# Altium integrated library Wurth_Elektronik_Electromechanic_Wire_to_Board_Connectors_rev16a.IntLib: 662 symbols (part 9 of 10)
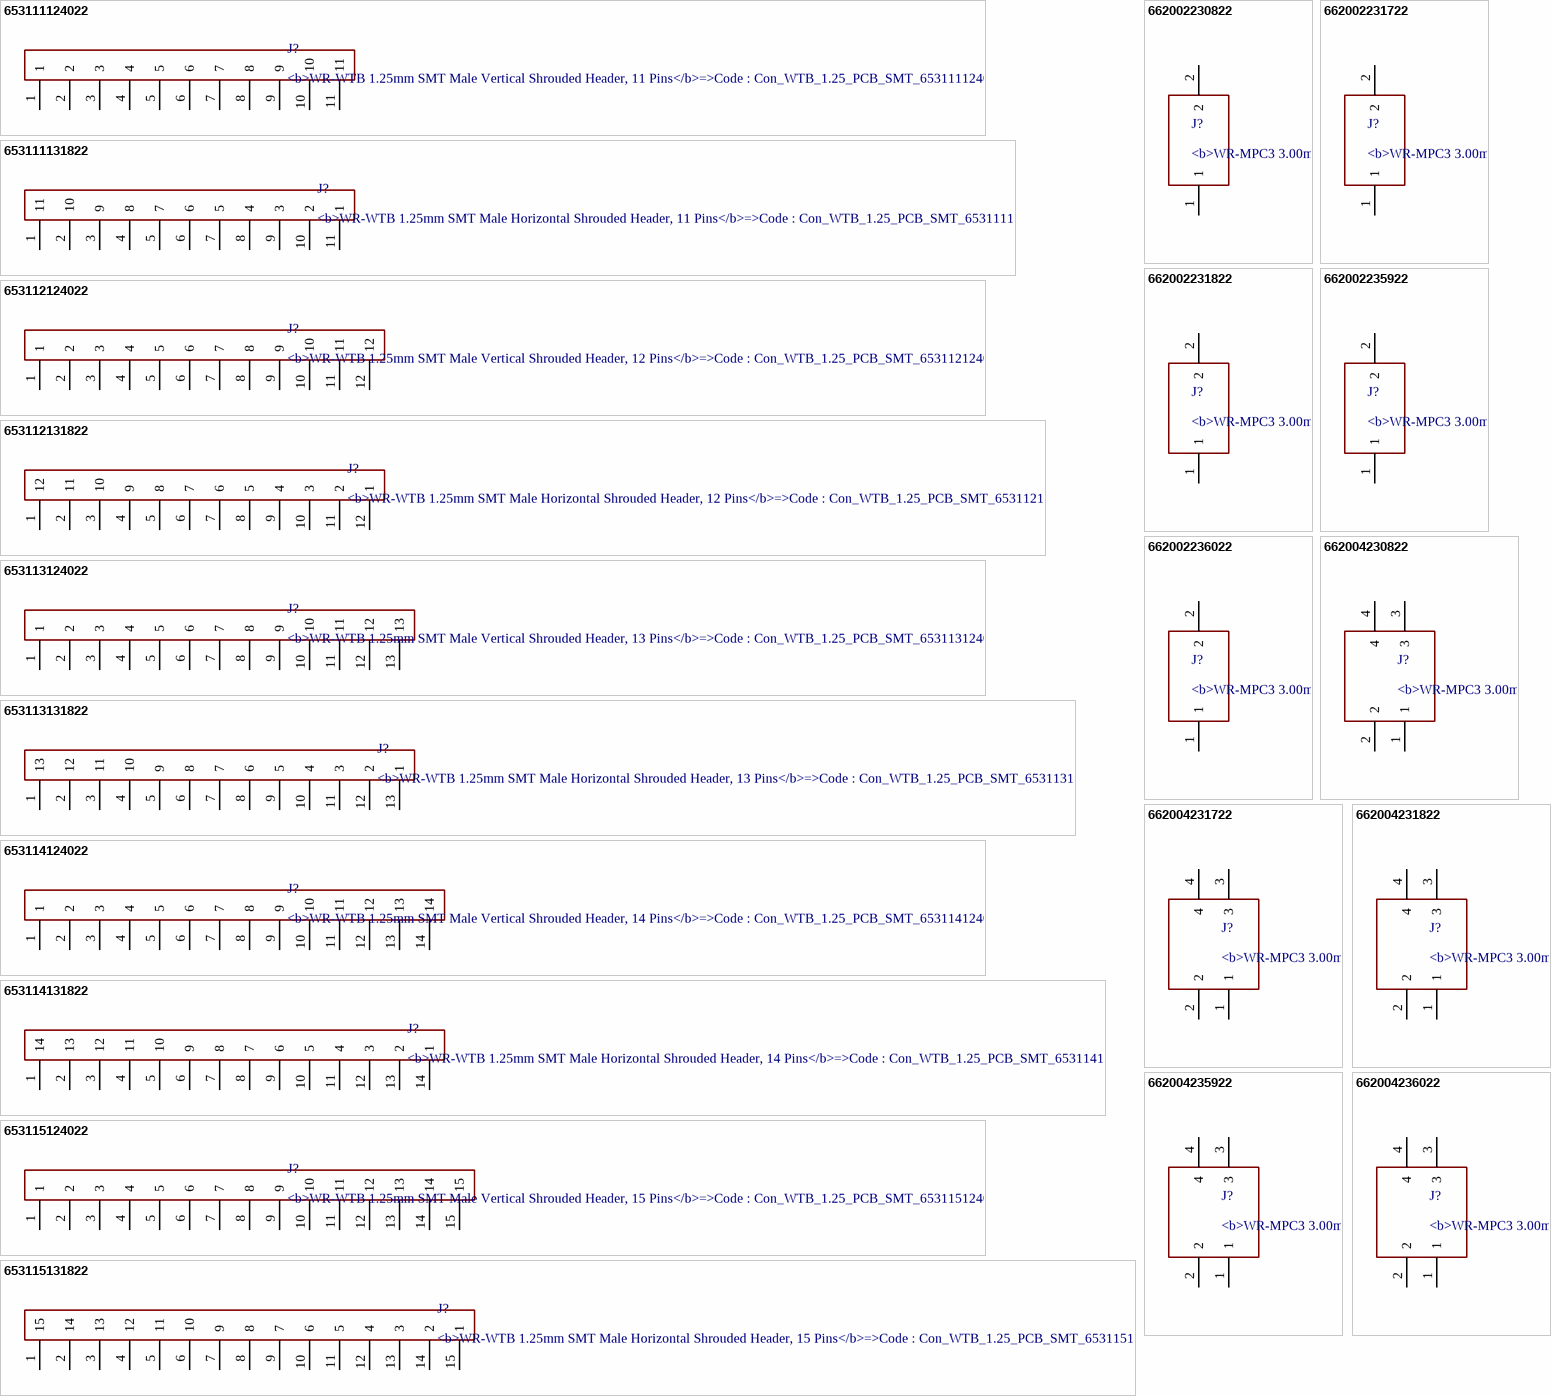
[diagram p70: symbols 653111124022 to 662004236022]

## 662004236022
designator J?, comment <b>WR-MPC3 3.00mm Male Dual Row SMT Angled Header with Plastic Pegs, 4 Pins</b>=>Code : Con_WTB_MPC3_2_PCB_SMT_662004236022 / <br><a href="http://katalog.we-online.de/media/thumbs2/eican/thb_Con_WTB_MPC3_2_PCB_SMT_6620xx236022_pf2.jpg" title="Enlarge picture"> / <img src="http://katalog.we-online.de/media/thumbs2/eican/thb_Con_WTB_MPC3_2_PCB_SMT_6620xx236022_pf2.jpg"  width="320"></a><p> / Details see: <a href="http://katalog.we-online.de/en/em/662_0xx_236_022">http://katalog.we-online.de/en/em/662_0xx_236_022</a><p> / Created 2014-06-06, Karrer Zheng<br> / 2014 (C) Würth Elektronik
footprint 662004236022
pins: 1, 2, 3, 4

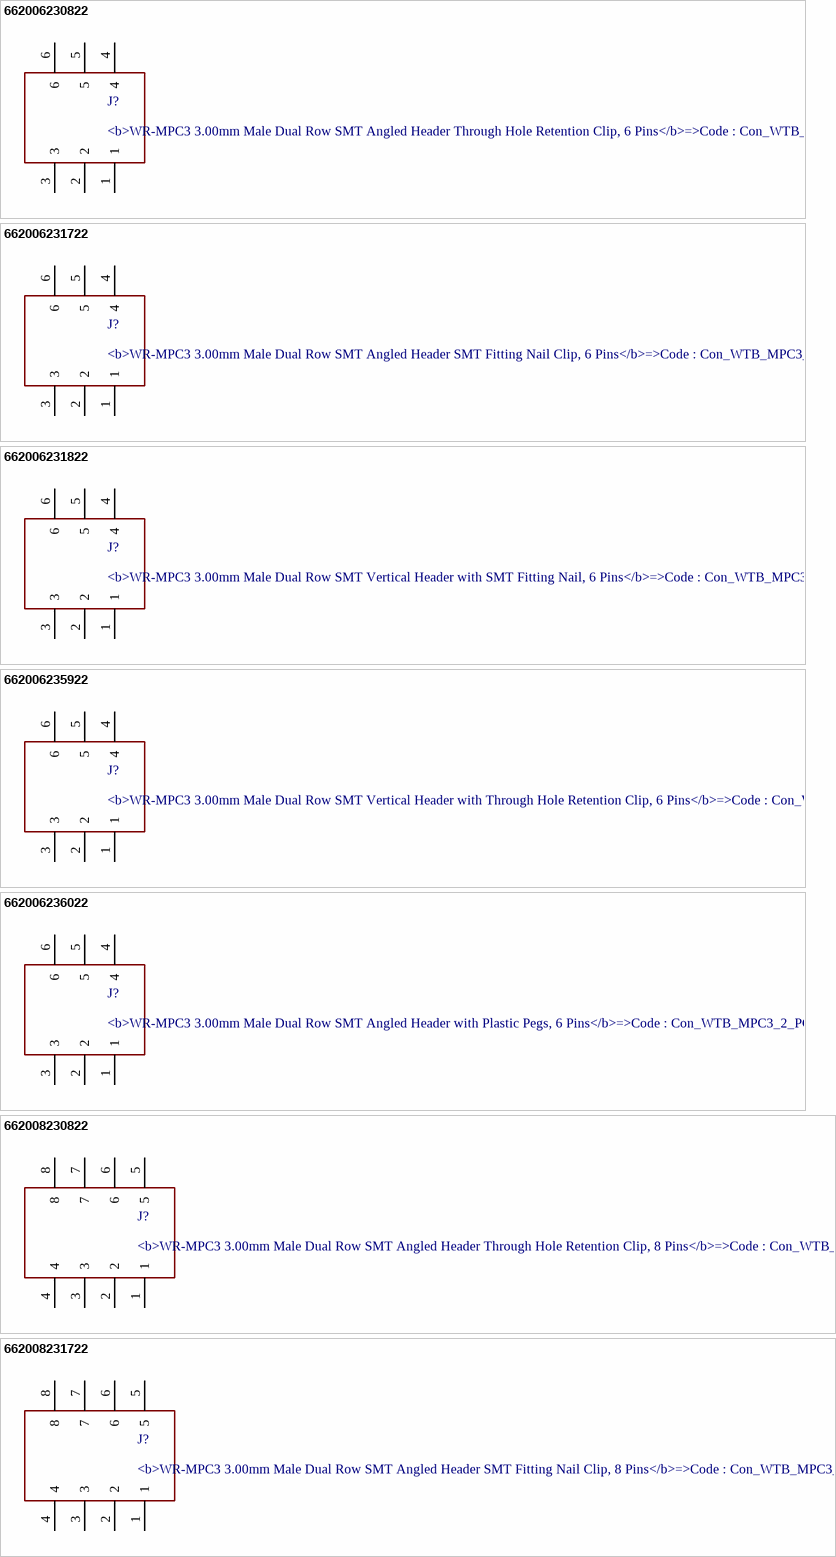
[diagram p51: symbols 662006230822 to 662008231722]

## 662006230822
designator J?, comment <b>WR-MPC3 3.00mm Male Dual Row SMT Angled Header Through Hole Retention Clip, 6 Pins</b>=>Code : Con_WTB_MPC3_2_PCB_SMT_662006230822 / <br><a href="http://katalog.we-online.de/media/thumbs2/eican/thb_Con_WTB_MPC3_2_PCB_SMT_6620xx230822_pf2.jpg" title="Enlarge picture"> / <img src="http://katalog.we-online.de/media/thumbs2/eican/thb_Con_WTB_MPC3_2_PCB_SMT_6620xx230822_pf2.jpg"  width="320"></a><p> / Details see: <a href="http://katalog.we-online.de/en/em/662_0xx_230_822">http://katalog.we-online.de/en/em/662_0xx_230_822</a><p> / Created 2014-06-06, Karrer Zheng<br> / 2014 (C) Würth Elektronik
footprint 662006230822
pins: 1, 2, 3, 4, 5, 6

## 662006231722
designator J?, comment <b>WR-MPC3 3.00mm Male Dual Row SMT Angled Header SMT Fitting Nail Clip, 6 Pins</b>=>Code : Con_WTB_MPC3_2_PCB_SMT_662006231722 / <br><a href="http://katalog.we-online.de/media/thumbs2/eican/thb_Con_WTB_MPC3_2_PCB_SMT_6620xx231722_pf2.jpg" title="Enlarge picture"> / <img src="http://katalog.we-online.de/media/thumbs2/eican/thb_Con_WTB_MPC3_2_PCB_SMT_6620xx231722_pf2.jpg"  width="320"></a><p> / Details see: <a href="http://katalog.we-online.de/en/em/662_0xx_231_722">http://katalog.we-online.de/en/em/662_0xx_231_722</a><p> / Created 2014-06-06, Karrer Zheng<br> / 2014 (C) Würth Elektronik
footprint 662006231722
pins: 1, 2, 3, 4, 5, 6

## 662006231822
designator J?, comment <b>WR-MPC3 3.00mm Male Dual Row SMT Vertical Header with SMT Fitting Nail, 6 Pins</b>=>Code : Con_WTB_MPC3_2_PCB_SMT_662006231822 / <br><a href="http://katalog.we-online.de/media/thumbs2/eican/thb_Con_WTB_MPC3_2_PCB_SMT_6620xx231822_pf2.jpg" title="Enlarge picture"> / <img src="http://katalog.we-online.de/media/thumbs2/eican/thb_Con_WTB_MPC3_2_PCB_SMT_6620xx231822_pf2.jpg"  width="320"></a><p> / Details see: <a href="http://katalog.we-online.de/en/em/662_0xx_231_822">http://katalog.we-online.de/en/em/662_0xx_231_822</a><p> / Created 2014-06-06, Karrer Zheng<br> / 2014 (C) Würth Elektronik
footprint 662006231822
pins: 1, 2, 3, 4, 5, 6

## 662006235922
designator J?, comment <b>WR-MPC3 3.00mm Male Dual Row SMT Vertical Header with Through Hole Retention Clip, 6 Pins</b>=>Code : Con_WTB_MPC3_2_PCB_SMT_662006235922 / <br><a href="http://katalog.we-online.de/media/thumbs2/eican/thb_Con_WTB_MPC3_2_PCB_SMT_6620xx235922_pf2.jpg" title="Enlarge picture"> / <img src="http://katalog.we-online.de/media/thumbs2/eican/thb_Con_WTB_MPC3_2_PCB_SMT_6620xx235922_pf2.jpg"  width="320"></a><p> / Details see: <a href="http://katalog.we-online.de/en/em/662_0xx_235_922">http://katalog.we-online.de/en/em/662_0xx_235_922</a><p> / Created 2014-06-06, Karrer Zheng<br> / 2014 (C) Würth Elektronik
footprint 662006235922
pins: 1, 2, 3, 4, 5, 6

## 662006236022
designator J?, comment <b>WR-MPC3 3.00mm Male Dual Row SMT Angled Header with Plastic Pegs, 6 Pins</b>=>Code : Con_WTB_MPC3_2_PCB_SMT_662006236022 / <br><a href="http://katalog.we-online.de/media/thumbs2/eican/thb_Con_WTB_MPC3_2_PCB_SMT_6620xx236022_pf2.jpg" title="Enlarge picture"> / <img src="http://katalog.we-online.de/media/thumbs2/eican/thb_Con_WTB_MPC3_2_PCB_SMT_6620xx236022_pf2.jpg"  width="320"></a><p> / Details see: <a href="http://katalog.we-online.de/en/em/662_0xx_236_022">http://katalog.we-online.de/en/em/662_0xx_236_022</a><p> / Created 2014-06-06, Karrer Zheng<br> / 2014 (C) Würth Elektronik
footprint 662006236022
pins: 1, 2, 3, 4, 5, 6

## 662008230822
designator J?, comment <b>WR-MPC3 3.00mm Male Dual Row SMT Angled Header Through Hole Retention Clip, 8 Pins</b>=>Code : Con_WTB_MPC3_2_PCB_SMT_662008230822 / <br><a href="http://katalog.we-online.de/media/thumbs2/eican/thb_Con_WTB_MPC3_2_PCB_SMT_6620xx230822_pf2.jpg" title="Enlarge picture"> / <img src="http://katalog.we-online.de/media/thumbs2/eican/thb_Con_WTB_MPC3_2_PCB_SMT_6620xx230822_pf2.jpg"  width="320"></a><p> / Details see: <a href="http://katalog.we-online.de/en/em/662_0xx_230_822">http://katalog.we-online.de/en/em/662_0xx_230_822</a><p> / Created 2014-06-06, Karrer Zheng<br> / 2014 (C) Würth Elektronik
footprint 662008230822
pins: 1, 2, 3, 4, 5, 6, 7, 8

## 662008231722
designator J?, comment <b>WR-MPC3 3.00mm Male Dual Row SMT Angled Header SMT Fitting Nail Clip, 8 Pins</b>=>Code : Con_WTB_MPC3_2_PCB_SMT_662008231722 / <br><a href="http://katalog.we-online.de/media/thumbs2/eican/thb_Con_WTB_MPC3_2_PCB_SMT_6620xx231722_pf2.jpg" title="Enlarge picture"> / <img src="http://katalog.we-online.de/media/thumbs2/eican/thb_Con_WTB_MPC3_2_PCB_SMT_6620xx231722_pf2.jpg"  width="320"></a><p> / Details see: <a href="http://katalog.we-online.de/en/em/662_0xx_231_722">http://katalog.we-online.de/en/em/662_0xx_231_722</a><p> / Created 2014-06-06, Karrer Zheng<br> / 2014 (C) Würth Elektronik
footprint 662008231722
pins: 1, 2, 3, 4, 5, 6, 7, 8

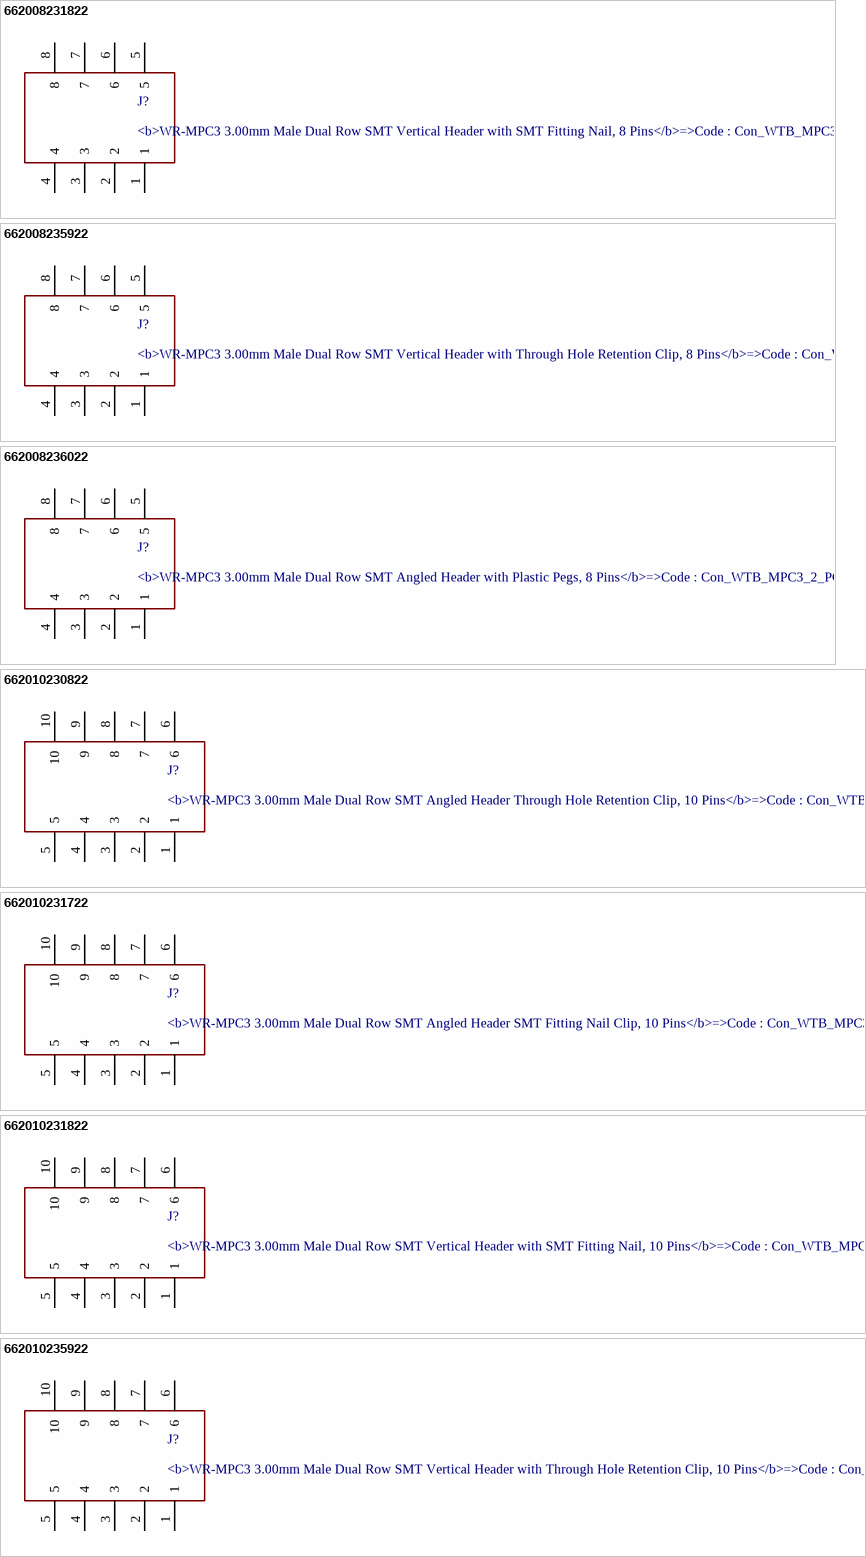
[diagram p52: symbols 662008231822 to 662010235922]

## 662008231822
designator J?, comment <b>WR-MPC3 3.00mm Male Dual Row SMT Vertical Header with SMT Fitting Nail, 8 Pins</b>=>Code : Con_WTB_MPC3_2_PCB_SMT_662008231822 / <br><a href="http://katalog.we-online.de/media/thumbs2/eican/thb_Con_WTB_MPC3_2_PCB_SMT_6620xx231822_pf2.jpg" title="Enlarge picture"> / <img src="http://katalog.we-online.de/media/thumbs2/eican/thb_Con_WTB_MPC3_2_PCB_SMT_6620xx231822_pf2.jpg"  width="320"></a><p> / Details see: <a href="http://katalog.we-online.de/en/em/662_0xx_231_822">http://katalog.we-online.de/en/em/662_0xx_231_822</a><p> / Created 2014-06-06, Karrer Zheng<br> / 2014 (C) Würth Elektronik
footprint 662008231822
pins: 1, 2, 3, 4, 5, 6, 7, 8

## 662008235922
designator J?, comment <b>WR-MPC3 3.00mm Male Dual Row SMT Vertical Header with Through Hole Retention Clip, 8 Pins</b>=>Code : Con_WTB_MPC3_2_PCB_SMT_662008235922 / <br><a href="http://katalog.we-online.de/media/thumbs2/eican/thb_Con_WTB_MPC3_2_PCB_SMT_6620xx235922_pf2.jpg" title="Enlarge picture"> / <img src="http://katalog.we-online.de/media/thumbs2/eican/thb_Con_WTB_MPC3_2_PCB_SMT_6620xx235922_pf2.jpg"  width="320"></a><p> / Details see: <a href="http://katalog.we-online.de/en/em/662_0xx_235_922">http://katalog.we-online.de/en/em/662_0xx_235_922</a><p> / Created 2014-06-06, Karrer Zheng<br> / 2014 (C) Würth Elektronik
footprint 662008235922
pins: 1, 2, 3, 4, 5, 6, 7, 8

## 662008236022
designator J?, comment <b>WR-MPC3 3.00mm Male Dual Row SMT Angled Header with Plastic Pegs, 8 Pins</b>=>Code : Con_WTB_MPC3_2_PCB_SMT_662008236022 / <br><a href="http://katalog.we-online.de/media/thumbs2/eican/thb_Con_WTB_MPC3_2_PCB_SMT_6620xx236022_pf2.jpg" title="Enlarge picture"> / <img src="http://katalog.we-online.de/media/thumbs2/eican/thb_Con_WTB_MPC3_2_PCB_SMT_6620xx236022_pf2.jpg"  width="320"></a><p> / Details see: <a href="http://katalog.we-online.de/en/em/662_0xx_236_022">http://katalog.we-online.de/en/em/662_0xx_236_022</a><p> / Created 2014-06-06, Karrer Zheng<br> / 2014 (C) Würth Elektronik
footprint 662008236022
pins: 1, 2, 3, 4, 5, 6, 7, 8

## 662010230822
designator J?, comment <b>WR-MPC3 3.00mm Male Dual Row SMT Angled Header Through Hole Retention Clip, 10 Pins</b>=>Code : Con_WTB_MPC3_2_PCB_SMT_662010230822 / <br><a href="http://katalog.we-online.de/media/thumbs2/eican/thb_Con_WTB_MPC3_2_PCB_SMT_6620xx230822_pf2.jpg" title="Enlarge picture"> / <img src="http://katalog.we-online.de/media/thumbs2/eican/thb_Con_WTB_MPC3_2_PCB_SMT_6620xx230822_pf2.jpg"  width="320"></a><p> / Details see: <a href="http://katalog.we-online.de/en/em/662_0xx_230_822">http://katalog.we-online.de/en/em/662_0xx_230_822</a><p> / Created 2014-06-06, Karrer Zheng<br> / 2014 (C) Würth Elektronik
footprint 662010230822
pins: 1, 2, 3, 4, 5, 6, 7, 8, 9, 10

## 662010231722
designator J?, comment <b>WR-MPC3 3.00mm Male Dual Row SMT Angled Header SMT Fitting Nail Clip, 10 Pins</b>=>Code : Con_WTB_MPC3_2_PCB_SMT_662010231722 / <br><a href="http://katalog.we-online.de/media/thumbs2/eican/thb_Con_WTB_MPC3_2_PCB_SMT_6620xx231722_pf2.jpg" title="Enlarge picture"> / <img src="http://katalog.we-online.de/media/thumbs2/eican/thb_Con_WTB_MPC3_2_PCB_SMT_6620xx231722_pf2.jpg"  width="320"></a><p> / Details see: <a href="http://katalog.we-online.de/en/em/662_0xx_231_722">http://katalog.we-online.de/en/em/662_0xx_231_722</a><p> / Created 2014-06-06, Karrer Zheng<br> / 2014 (C) Würth Elektronik
footprint 662010231722
pins: 1, 2, 3, 4, 5, 6, 7, 8, 9, 10

## 662010231822
designator J?, comment <b>WR-MPC3 3.00mm Male Dual Row SMT Vertical Header with SMT Fitting Nail, 10 Pins</b>=>Code : Con_WTB_MPC3_2_PCB_SMT_662010231822 / <br><a href="http://katalog.we-online.de/media/thumbs2/eican/thb_Con_WTB_MPC3_2_PCB_SMT_6620xx231822_pf2.jpg" title="Enlarge picture"> / <img src="http://katalog.we-online.de/media/thumbs2/eican/thb_Con_WTB_MPC3_2_PCB_SMT_6620xx231822_pf2.jpg"  width="320"></a><p> / Details see: <a href="http://katalog.we-online.de/en/em/662_0xx_231_822">http://katalog.we-online.de/en/em/662_0xx_231_822</a><p> / Created 2014-06-06, Karrer Zheng<br> / 2014 (C) Würth Elektronik
footprint 662010231822
pins: 1, 2, 3, 4, 5, 6, 7, 8, 9, 10

## 662010235922
designator J?, comment <b>WR-MPC3 3.00mm Male Dual Row SMT Vertical Header with Through Hole Retention Clip, 10 Pins</b>=>Code : Con_WTB_MPC3_2_PCB_SMT_662010235922 / <br><a href="http://katalog.we-online.de/media/thumbs2/eican/thb_Con_WTB_MPC3_2_PCB_SMT_6620xx235922_pf2.jpg" title="Enlarge picture"> / <img src="http://katalog.we-online.de/media/thumbs2/eican/thb_Con_WTB_MPC3_2_PCB_SMT_6620xx235922_pf2.jpg"  width="320"></a><p> / Details see: <a href="http://katalog.we-online.de/en/em/662_0xx_235_922">http://katalog.we-online.de/en/em/662_0xx_235_922</a><p> / Created 2014-06-06, Karrer Zheng<br> / 2014 (C) Würth Elektronik
footprint 662010235922
pins: 1, 2, 3, 4, 5, 6, 7, 8, 9, 10

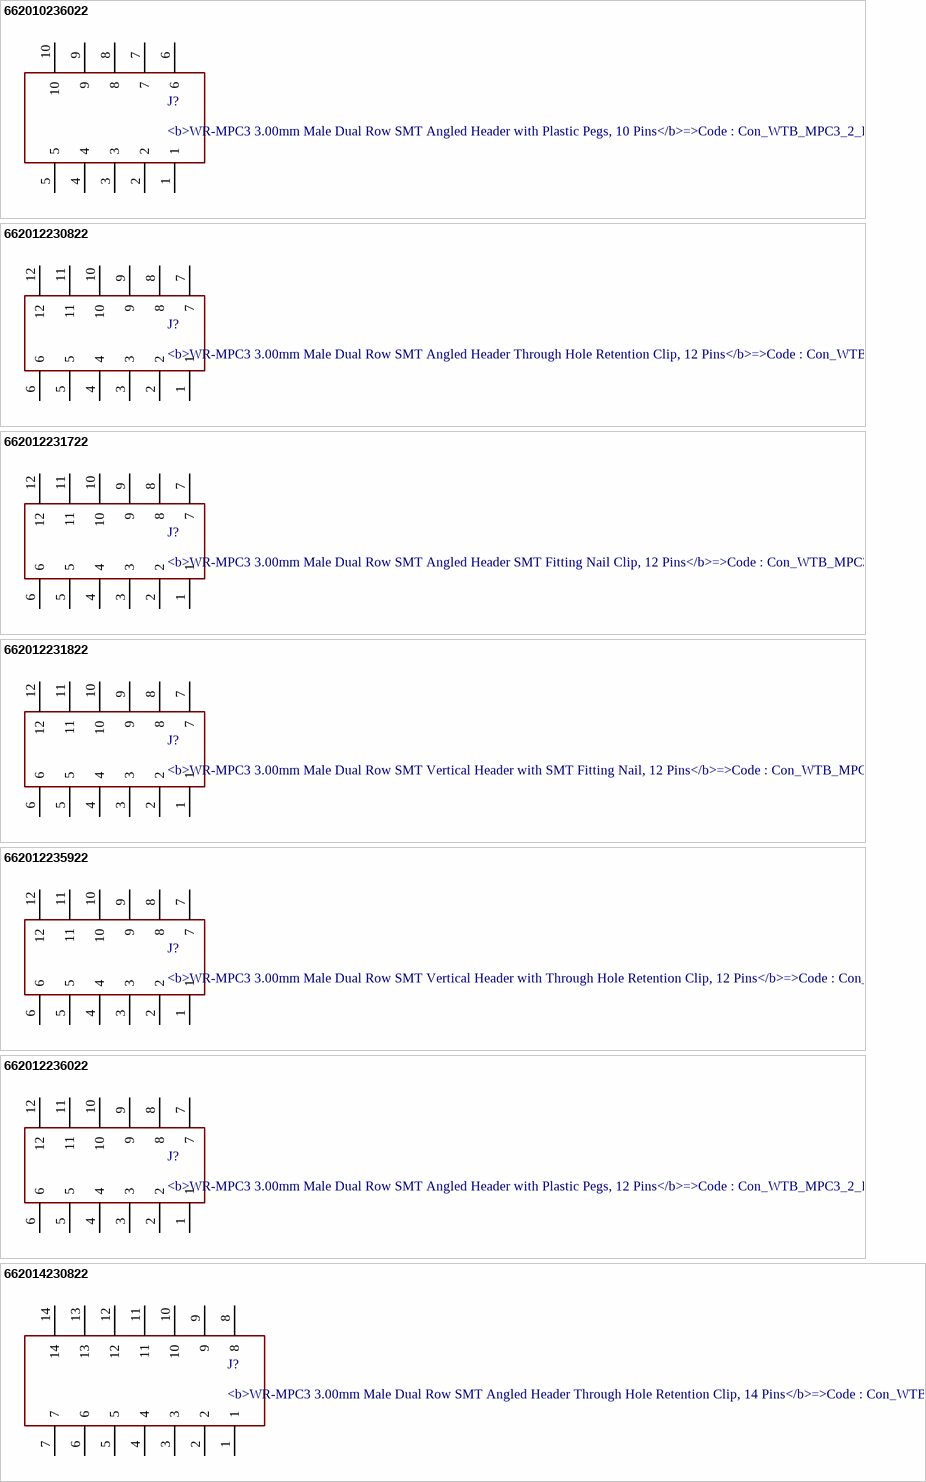
[diagram p53: symbols 662010236022 to 662014230822]

## 662010236022
designator J?, comment <b>WR-MPC3 3.00mm Male Dual Row SMT Angled Header with Plastic Pegs, 10 Pins</b>=>Code : Con_WTB_MPC3_2_PCB_SMT_662010236022 / <br><a href="http://katalog.we-online.de/media/thumbs2/eican/thb_Con_WTB_MPC3_2_PCB_SMT_6620xx236022_pf2.jpg" title="Enlarge picture"> / <img src="http://katalog.we-online.de/media/thumbs2/eican/thb_Con_WTB_MPC3_2_PCB_SMT_6620xx236022_pf2.jpg"  width="320"></a><p> / Details see: <a href="http://katalog.we-online.de/en/em/662_0xx_236_022">http://katalog.we-online.de/en/em/662_0xx_236_022</a><p> / Created 2014-06-06, Karrer Zheng<br> / 2014 (C) Würth Elektronik
footprint 662010236022
pins: 1, 2, 3, 4, 5, 6, 7, 8, 9, 10

## 662012230822
designator J?, comment <b>WR-MPC3 3.00mm Male Dual Row SMT Angled Header Through Hole Retention Clip, 12 Pins</b>=>Code : Con_WTB_MPC3_2_PCB_SMT_662012230822 / <br><a href="http://katalog.we-online.de/media/thumbs2/eican/thb_Con_WTB_MPC3_2_PCB_SMT_6620xx230822_pf2.jpg" title="Enlarge picture"> / <img src="http://katalog.we-online.de/media/thumbs2/eican/thb_Con_WTB_MPC3_2_PCB_SMT_6620xx230822_pf2.jpg"  width="320"></a><p> / Details see: <a href="http://katalog.we-online.de/en/em/662_0xx_230_822">http://katalog.we-online.de/en/em/662_0xx_230_822</a><p> / Created 2014-06-06, Karrer Zheng<br> / 2014 (C) Würth Elektronik
footprint 662012230822
pins: 1, 2, 3, 4, 5, 6, 7 (hiz), 8, 9, 10, 11, 12

## 662012231722
designator J?, comment <b>WR-MPC3 3.00mm Male Dual Row SMT Angled Header SMT Fitting Nail Clip, 12 Pins</b>=>Code : Con_WTB_MPC3_2_PCB_SMT_662012231722 / <br><a href="http://katalog.we-online.de/media/thumbs2/eican/thb_Con_WTB_MPC3_2_PCB_SMT_6620xx231722_pf2.jpg" title="Enlarge picture"> / <img src="http://katalog.we-online.de/media/thumbs2/eican/thb_Con_WTB_MPC3_2_PCB_SMT_6620xx231722_pf2.jpg"  width="320"></a><p> / Details see: <a href="http://katalog.we-online.de/en/em/662_0xx_231_722">http://katalog.we-online.de/en/em/662_0xx_231_722</a><p> / Created 2014-06-06, Karrer Zheng<br> / 2014 (C) Würth Elektronik
footprint 662012231722
pins: 1, 2, 3, 4, 5, 6, 7 (hiz), 8, 9, 10, 11, 12

## 662012231822
designator J?, comment <b>WR-MPC3 3.00mm Male Dual Row SMT Vertical Header with SMT Fitting Nail, 12 Pins</b>=>Code : Con_WTB_MPC3_2_PCB_SMT_662012231822 / <br><a href="http://katalog.we-online.de/media/thumbs2/eican/thb_Con_WTB_MPC3_2_PCB_SMT_6620xx231822_pf2.jpg" title="Enlarge picture"> / <img src="http://katalog.we-online.de/media/thumbs2/eican/thb_Con_WTB_MPC3_2_PCB_SMT_6620xx231822_pf2.jpg"  width="320"></a><p> / Details see: <a href="http://katalog.we-online.de/en/em/662_0xx_231_822">http://katalog.we-online.de/en/em/662_0xx_231_822</a><p> / Created 2014-06-06, Karrer Zheng<br> / 2014 (C) Würth Elektronik
footprint 662012231822
pins: 1, 2, 3, 4, 5, 6, 7 (hiz), 8, 9, 10, 11, 12

## 662012235922
designator J?, comment <b>WR-MPC3 3.00mm Male Dual Row SMT Vertical Header with Through Hole Retention Clip, 12 Pins</b>=>Code : Con_WTB_MPC3_2_PCB_SMT_662012235922 / <br><a href="http://katalog.we-online.de/media/thumbs2/eican/thb_Con_WTB_MPC3_2_PCB_SMT_6620xx235922_pf2.jpg" title="Enlarge picture"> / <img src="http://katalog.we-online.de/media/thumbs2/eican/thb_Con_WTB_MPC3_2_PCB_SMT_6620xx235922_pf2.jpg"  width="320"></a><p> / Details see: <a href="http://katalog.we-online.de/en/em/662_0xx_235_922">http://katalog.we-online.de/en/em/662_0xx_235_922</a><p> / Created 2014-06-06, Karrer Zheng<br> / 2014 (C) Würth Elektronik
footprint 662012235922
pins: 1, 2, 3, 4, 5, 6, 7 (hiz), 8, 9, 10, 11, 12

## 662012236022
designator J?, comment <b>WR-MPC3 3.00mm Male Dual Row SMT Angled Header with Plastic Pegs, 12 Pins</b>=>Code : Con_WTB_MPC3_2_PCB_SMT_662012236022 / <br><a href="http://katalog.we-online.de/media/thumbs2/eican/thb_Con_WTB_MPC3_2_PCB_SMT_6620xx236022_pf2.jpg" title="Enlarge picture"> / <img src="http://katalog.we-online.de/media/thumbs2/eican/thb_Con_WTB_MPC3_2_PCB_SMT_6620xx236022_pf2.jpg"  width="320"></a><p> / Details see: <a href="http://katalog.we-online.de/en/em/662_0xx_236_022">http://katalog.we-online.de/en/em/662_0xx_236_022</a><p> / Created 2014-06-06, Karrer Zheng<br> / 2014 (C) Würth Elektronik
footprint 662012236022
pins: 1, 2, 3, 4, 5, 6, 7 (hiz), 8, 9, 10, 11, 12

## 662014230822
designator J?, comment <b>WR-MPC3 3.00mm Male Dual Row SMT Angled Header Through Hole Retention Clip, 14 Pins</b>=>Code : Con_WTB_MPC3_2_PCB_SMT_662014230822 / <br><a href="http://katalog.we-online.de/media/thumbs2/eican/thb_Con_WTB_MPC3_2_PCB_SMT_6620xx230822_pf2.jpg" title="Enlarge picture"> / <img src="http://katalog.we-online.de/media/thumbs2/eican/thb_Con_WTB_MPC3_2_PCB_SMT_6620xx230822_pf2.jpg"  width="320"></a><p> / Details see: <a href="http://katalog.we-online.de/en/em/662_0xx_230_822">http://katalog.we-online.de/en/em/662_0xx_230_822</a><p> / Created 2014-06-06, Karrer Zheng<br> / 2014 (C) Würth Elektronik
footprint 662014230822
pins: 1, 2, 3, 4, 5, 6, 7, 8, 9, 10, 11, 12, 13, 14

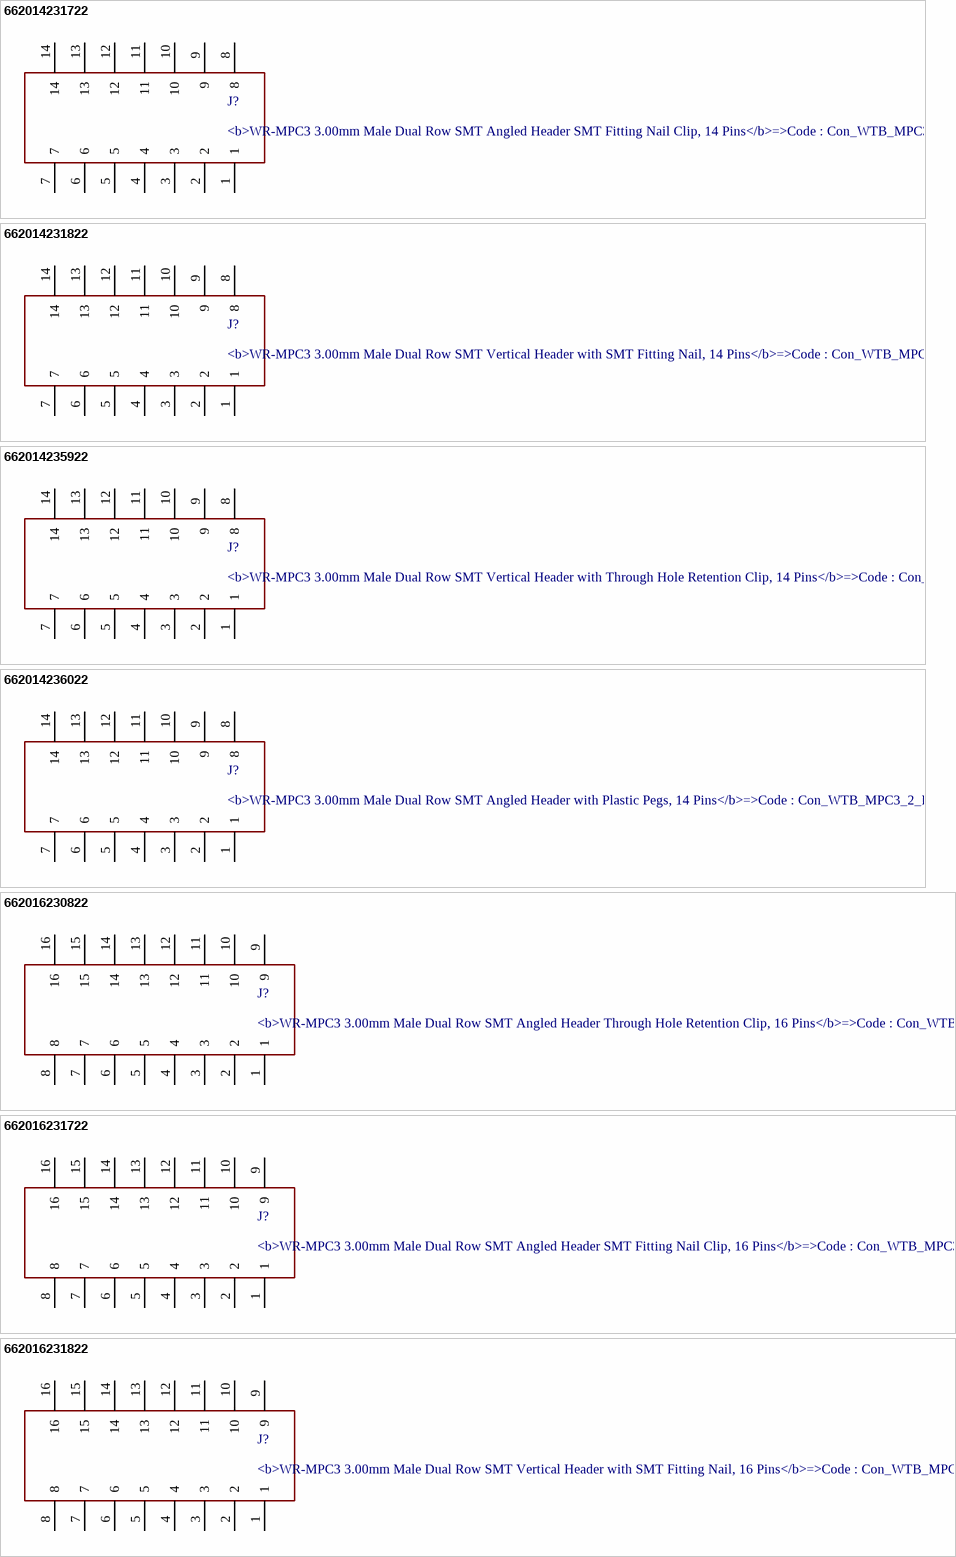
[diagram p54: symbols 662014231722 to 662016231822]

## 662014231722
designator J?, comment <b>WR-MPC3 3.00mm Male Dual Row SMT Angled Header SMT Fitting Nail Clip, 14 Pins</b>=>Code : Con_WTB_MPC3_2_PCB_SMT_662014231722 / <br><a href="http://katalog.we-online.de/media/thumbs2/eican/thb_Con_WTB_MPC3_2_PCB_SMT_6620xx231722_pf2.jpg" title="Enlarge picture"> / <img src="http://katalog.we-online.de/media/thumbs2/eican/thb_Con_WTB_MPC3_2_PCB_SMT_6620xx231722_pf2.jpg"  width="320"></a><p> / Details see: <a href="http://katalog.we-online.de/en/em/662_0xx_231_722">http://katalog.we-online.de/en/em/662_0xx_231_722</a><p> / Created 2014-06-06, Karrer Zheng<br> / 2014 (C) Würth Elektronik
footprint 662014231722
pins: 1, 2, 3, 4, 5, 6, 7, 8, 9, 10, 11, 12, 13, 14

## 662014231822
designator J?, comment <b>WR-MPC3 3.00mm Male Dual Row SMT Vertical Header with SMT Fitting Nail, 14 Pins</b>=>Code : Con_WTB_MPC3_2_PCB_SMT_662014231822 / <br><a href="http://katalog.we-online.de/media/thumbs2/eican/thb_Con_WTB_MPC3_2_PCB_SMT_6620xx231822_pf2.jpg" title="Enlarge picture"> / <img src="http://katalog.we-online.de/media/thumbs2/eican/thb_Con_WTB_MPC3_2_PCB_SMT_6620xx231822_pf2.jpg"  width="320"></a><p> / Details see: <a href="http://katalog.we-online.de/en/em/662_0xx_231_822">http://katalog.we-online.de/en/em/662_0xx_231_822</a><p> / Created 2014-06-06, Karrer Zheng<br> / 2014 (C) Würth Elektronik
footprint 662014231822
pins: 1, 2, 3, 4, 5, 6, 7, 8, 9, 10, 11, 12, 13, 14

## 662014235922
designator J?, comment <b>WR-MPC3 3.00mm Male Dual Row SMT Vertical Header with Through Hole Retention Clip, 14 Pins</b>=>Code : Con_WTB_MPC3_2_PCB_SMT_662014235922 / <br><a href="http://katalog.we-online.de/media/thumbs2/eican/thb_Con_WTB_MPC3_2_PCB_SMT_6620xx235922_pf2.jpg" title="Enlarge picture"> / <img src="http://katalog.we-online.de/media/thumbs2/eican/thb_Con_WTB_MPC3_2_PCB_SMT_6620xx235922_pf2.jpg"  width="320"></a><p> / Details see: <a href="http://katalog.we-online.de/en/em/662_0xx_235_922">http://katalog.we-online.de/en/em/662_0xx_235_922</a><p> / Created 2014-06-06, Karrer Zheng<br> / 2014 (C) Würth Elektronik
footprint 662014235922
pins: 1, 2, 3, 4, 5, 6, 7, 8, 9, 10, 11, 12, 13, 14

## 662014236022
designator J?, comment <b>WR-MPC3 3.00mm Male Dual Row SMT Angled Header with Plastic Pegs, 14 Pins</b>=>Code : Con_WTB_MPC3_2_PCB_SMT_662014236022 / <br><a href="http://katalog.we-online.de/media/thumbs2/eican/thb_Con_WTB_MPC3_2_PCB_SMT_6620xx236022_pf2.jpg" title="Enlarge picture"> / <img src="http://katalog.we-online.de/media/thumbs2/eican/thb_Con_WTB_MPC3_2_PCB_SMT_6620xx236022_pf2.jpg"  width="320"></a><p> / Details see: <a href="http://katalog.we-online.de/en/em/662_0xx_236_022">http://katalog.we-online.de/en/em/662_0xx_236_022</a><p> / Created 2014-06-06, Karrer Zheng<br> / 2014 (C) Würth Elektronik
footprint 662014236022
pins: 1, 2, 3, 4, 5, 6, 7, 8, 9, 10, 11, 12, 13, 14

## 662016230822
designator J?, comment <b>WR-MPC3 3.00mm Male Dual Row SMT Angled Header Through Hole Retention Clip, 16 Pins</b>=>Code : Con_WTB_MPC3_2_PCB_SMT_662016230822 / <br><a href="http://katalog.we-online.de/media/thumbs2/eican/thb_Con_WTB_MPC3_2_PCB_SMT_6620xx230822_pf2.jpg" title="Enlarge picture"> / <img src="http://katalog.we-online.de/media/thumbs2/eican/thb_Con_WTB_MPC3_2_PCB_SMT_6620xx230822_pf2.jpg"  width="320"></a><p> / Details see: <a href="http://katalog.we-online.de/en/em/662_0xx_230_822">http://katalog.we-online.de/en/em/662_0xx_230_822</a><p> / Created 2014-06-06, Karrer Zheng<br> / 2014 (C) Würth Elektronik
footprint 662016230822
pins: 1, 2, 3, 4, 5, 6, 7, 8, 9, 10, 11, 12, 13, 14, 15, 16

## 662016231722
designator J?, comment <b>WR-MPC3 3.00mm Male Dual Row SMT Angled Header SMT Fitting Nail Clip, 16 Pins</b>=>Code : Con_WTB_MPC3_2_PCB_SMT_662016231722 / <br><a href="http://katalog.we-online.de/media/thumbs2/eican/thb_Con_WTB_MPC3_2_PCB_SMT_6620xx231722_pf2.jpg" title="Enlarge picture"> / <img src="http://katalog.we-online.de/media/thumbs2/eican/thb_Con_WTB_MPC3_2_PCB_SMT_6620xx231722_pf2.jpg"  width="320"></a><p> / Details see: <a href="http://katalog.we-online.de/en/em/662_0xx_231_722">http://katalog.we-online.de/en/em/662_0xx_231_722</a><p> / Created 2014-06-06, Karrer Zheng<br> / 2014 (C) Würth Elektronik
footprint 662016231722
pins: 1, 2, 3, 4, 5, 6, 7, 8, 9, 10, 11, 12, 13, 14, 15, 16

## 662016231822
designator J?, comment <b>WR-MPC3 3.00mm Male Dual Row SMT Vertical Header with SMT Fitting Nail, 16 Pins</b>=>Code : Con_WTB_MPC3_2_PCB_SMT_662016231822 / <br><a href="http://katalog.we-online.de/media/thumbs2/eican/thb_Con_WTB_MPC3_2_PCB_SMT_6620xx231822_pf2.jpg" title="Enlarge picture"> / <img src="http://katalog.we-online.de/media/thumbs2/eican/thb_Con_WTB_MPC3_2_PCB_SMT_6620xx231822_pf2.jpg"  width="320"></a><p> / Details see: <a href="http://katalog.we-online.de/en/em/662_0xx_231_822">http://katalog.we-online.de/en/em/662_0xx_231_822</a><p> / Created 2014-06-06, Karrer Zheng<br> / 2014 (C) Würth Elektronik
footprint 662016231822
pins: 1, 2, 3, 4, 5, 6, 7, 8, 9, 10, 11, 12, 13, 14, 15, 16

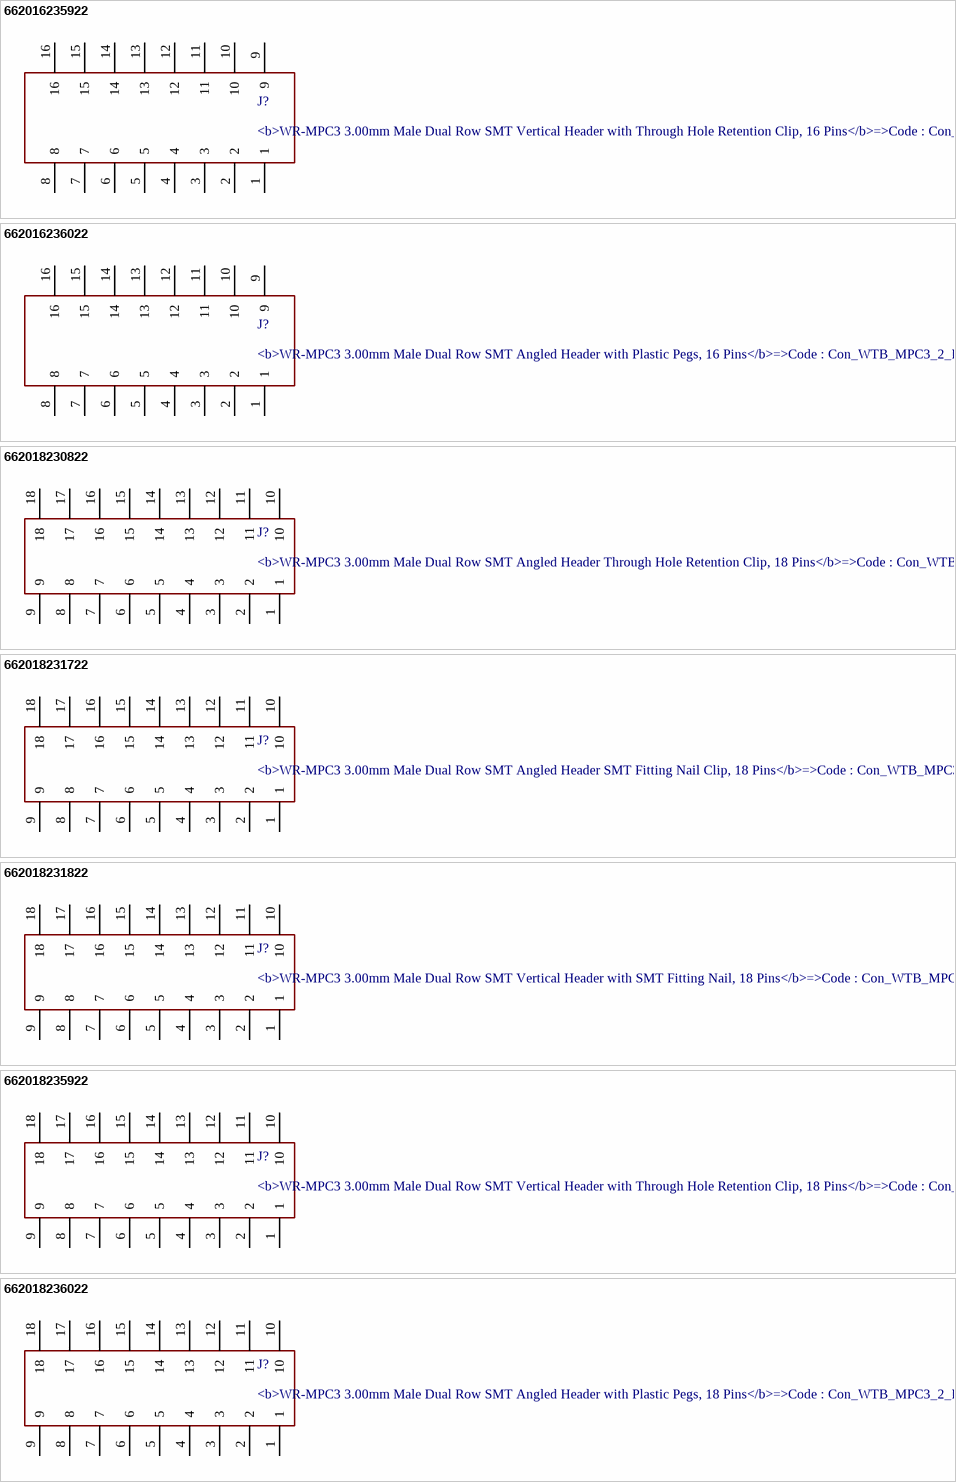
[diagram p55: symbols 662016235922 to 662018236022]

## 662016235922
designator J?, comment <b>WR-MPC3 3.00mm Male Dual Row SMT Vertical Header with Through Hole Retention Clip, 16 Pins</b>=>Code : Con_WTB_MPC3_2_PCB_SMT_662016235922 / <br><a href="http://katalog.we-online.de/media/thumbs2/eican/thb_Con_WTB_MPC3_2_PCB_SMT_6620xx235922_pf2.jpg" title="Enlarge picture"> / <img src="http://katalog.we-online.de/media/thumbs2/eican/thb_Con_WTB_MPC3_2_PCB_SMT_6620xx235922_pf2.jpg"  width="320"></a><p> / Details see: <a href="http://katalog.we-online.de/en/em/662_0xx_235_922">http://katalog.we-online.de/en/em/662_0xx_235_922</a><p> / Created 2014-06-06, Karrer Zheng<br> / 2014 (C) Würth Elektronik
footprint 662016235922
pins: 1, 2, 3, 4, 5, 6, 7, 8, 9, 10, 11, 12, 13, 14, 15, 16

## 662016236022
designator J?, comment <b>WR-MPC3 3.00mm Male Dual Row SMT Angled Header with Plastic Pegs, 16 Pins</b>=>Code : Con_WTB_MPC3_2_PCB_SMT_662016236022 / <br><a href="http://katalog.we-online.de/media/thumbs2/eican/thb_Con_WTB_MPC3_2_PCB_SMT_6620xx236022_pf2.jpg" title="Enlarge picture"> / <img src="http://katalog.we-online.de/media/thumbs2/eican/thb_Con_WTB_MPC3_2_PCB_SMT_6620xx236022_pf2.jpg"  width="320"></a><p> / Details see: <a href="http://katalog.we-online.de/en/em/662_0xx_236_022">http://katalog.we-online.de/en/em/662_0xx_236_022</a><p> / Created 2014-06-06, Karrer Zheng<br> / 2014 (C) Würth Elektronik
footprint 662016236022
pins: 1, 2, 3, 4, 5, 6, 7, 8, 9, 10, 11, 12, 13, 14, 15, 16

## 662018230822
designator J?, comment <b>WR-MPC3 3.00mm Male Dual Row SMT Angled Header Through Hole Retention Clip, 18 Pins</b>=>Code : Con_WTB_MPC3_2_PCB_SMT_662018230822 / <br><a href="http://katalog.we-online.de/media/thumbs2/eican/thb_Con_WTB_MPC3_2_PCB_SMT_6620xx230822_pf2.jpg" title="Enlarge picture"> / <img src="http://katalog.we-online.de/media/thumbs2/eican/thb_Con_WTB_MPC3_2_PCB_SMT_6620xx230822_pf2.jpg"  width="320"></a><p> / Details see: <a href="http://katalog.we-online.de/en/em/662_0xx_230_822">http://katalog.we-online.de/en/em/662_0xx_230_822</a><p> / Created 2014-06-06, Karrer Zheng<br> / 2014 (C) Würth Elektronik
footprint 662018230822
pins: 1, 2, 3, 4, 5, 6, 7, 8, 9, 10, 11, 12, 13, 14, 15, 16, 17, 18

## 662018231722
designator J?, comment <b>WR-MPC3 3.00mm Male Dual Row SMT Angled Header SMT Fitting Nail Clip, 18 Pins</b>=>Code : Con_WTB_MPC3_2_PCB_SMT_662018231722 / <br><a href="http://katalog.we-online.de/media/thumbs2/eican/thb_Con_WTB_MPC3_2_PCB_SMT_6620xx231722_pf2.jpg" title="Enlarge picture"> / <img src="http://katalog.we-online.de/media/thumbs2/eican/thb_Con_WTB_MPC3_2_PCB_SMT_6620xx231722_pf2.jpg"  width="320"></a><p> / Details see: <a href="http://katalog.we-online.de/en/em/662_0xx_231_722">http://katalog.we-online.de/en/em/662_0xx_231_722</a><p> / Created 2014-06-06, Karrer Zheng<br> / 2014 (C) Würth Elektronik
footprint 662018231722
pins: 1, 2, 3, 4, 5, 6, 7, 8, 9, 10, 11, 12, 13, 14, 15, 16, 17, 18

## 662018231822
designator J?, comment <b>WR-MPC3 3.00mm Male Dual Row SMT Vertical Header with SMT Fitting Nail, 18 Pins</b>=>Code : Con_WTB_MPC3_2_PCB_SMT_662018231822 / <br><a href="http://katalog.we-online.de/media/thumbs2/eican/thb_Con_WTB_MPC3_2_PCB_SMT_6620xx231822_pf2.jpg" title="Enlarge picture"> / <img src="http://katalog.we-online.de/media/thumbs2/eican/thb_Con_WTB_MPC3_2_PCB_SMT_6620xx231822_pf2.jpg"  width="320"></a><p> / Details see: <a href="http://katalog.we-online.de/en/em/662_0xx_231_822">http://katalog.we-online.de/en/em/662_0xx_231_822</a><p> / Created 2014-06-06, Karrer Zheng<br> / 2014 (C) Würth Elektronik
footprint 662018231822
pins: 1, 2, 3, 4, 5, 6, 7, 8, 9, 10, 11, 12, 13, 14, 15, 16, 17, 18

## 662018235922
designator J?, comment <b>WR-MPC3 3.00mm Male Dual Row SMT Vertical Header with Through Hole Retention Clip, 18 Pins</b>=>Code : Con_WTB_MPC3_2_PCB_SMT_662018235922 / <br><a href="http://katalog.we-online.de/media/thumbs2/eican/thb_Con_WTB_MPC3_2_PCB_SMT_6620xx235922_pf2.jpg" title="Enlarge picture"> / <img src="http://katalog.we-online.de/media/thumbs2/eican/thb_Con_WTB_MPC3_2_PCB_SMT_6620xx235922_pf2.jpg"  width="320"></a><p> / Details see: <a href="http://katalog.we-online.de/en/em/662_0xx_235_922">http://katalog.we-online.de/en/em/662_0xx_235_922</a><p> / Created 2014-06-06, Karrer Zheng<br> / 2014 (C) Würth Elektronik
footprint 662018235922
pins: 1, 2, 3, 4, 5, 6, 7, 8, 9, 10, 11, 12, 13, 14, 15, 16, 17, 18

## 662018236022
designator J?, comment <b>WR-MPC3 3.00mm Male Dual Row SMT Angled Header with Plastic Pegs, 18 Pins</b>=>Code : Con_WTB_MPC3_2_PCB_SMT_662018236022 / <br><a href="http://katalog.we-online.de/media/thumbs2/eican/thb_Con_WTB_MPC3_2_PCB_SMT_6620xx236022_pf2.jpg" title="Enlarge picture"> / <img src="http://katalog.we-online.de/media/thumbs2/eican/thb_Con_WTB_MPC3_2_PCB_SMT_6620xx236022_pf2.jpg"  width="320"></a><p> / Details see: <a href="http://katalog.we-online.de/en/em/662_0xx_236_022">http://katalog.we-online.de/en/em/662_0xx_236_022</a><p> / Created 2014-06-06, Karrer Zheng<br> / 2014 (C) Würth Elektronik
footprint 662018236022
pins: 1, 2, 3, 4, 5, 6, 7, 8, 9, 10, 11, 12, 13, 14, 15, 16, 17, 18

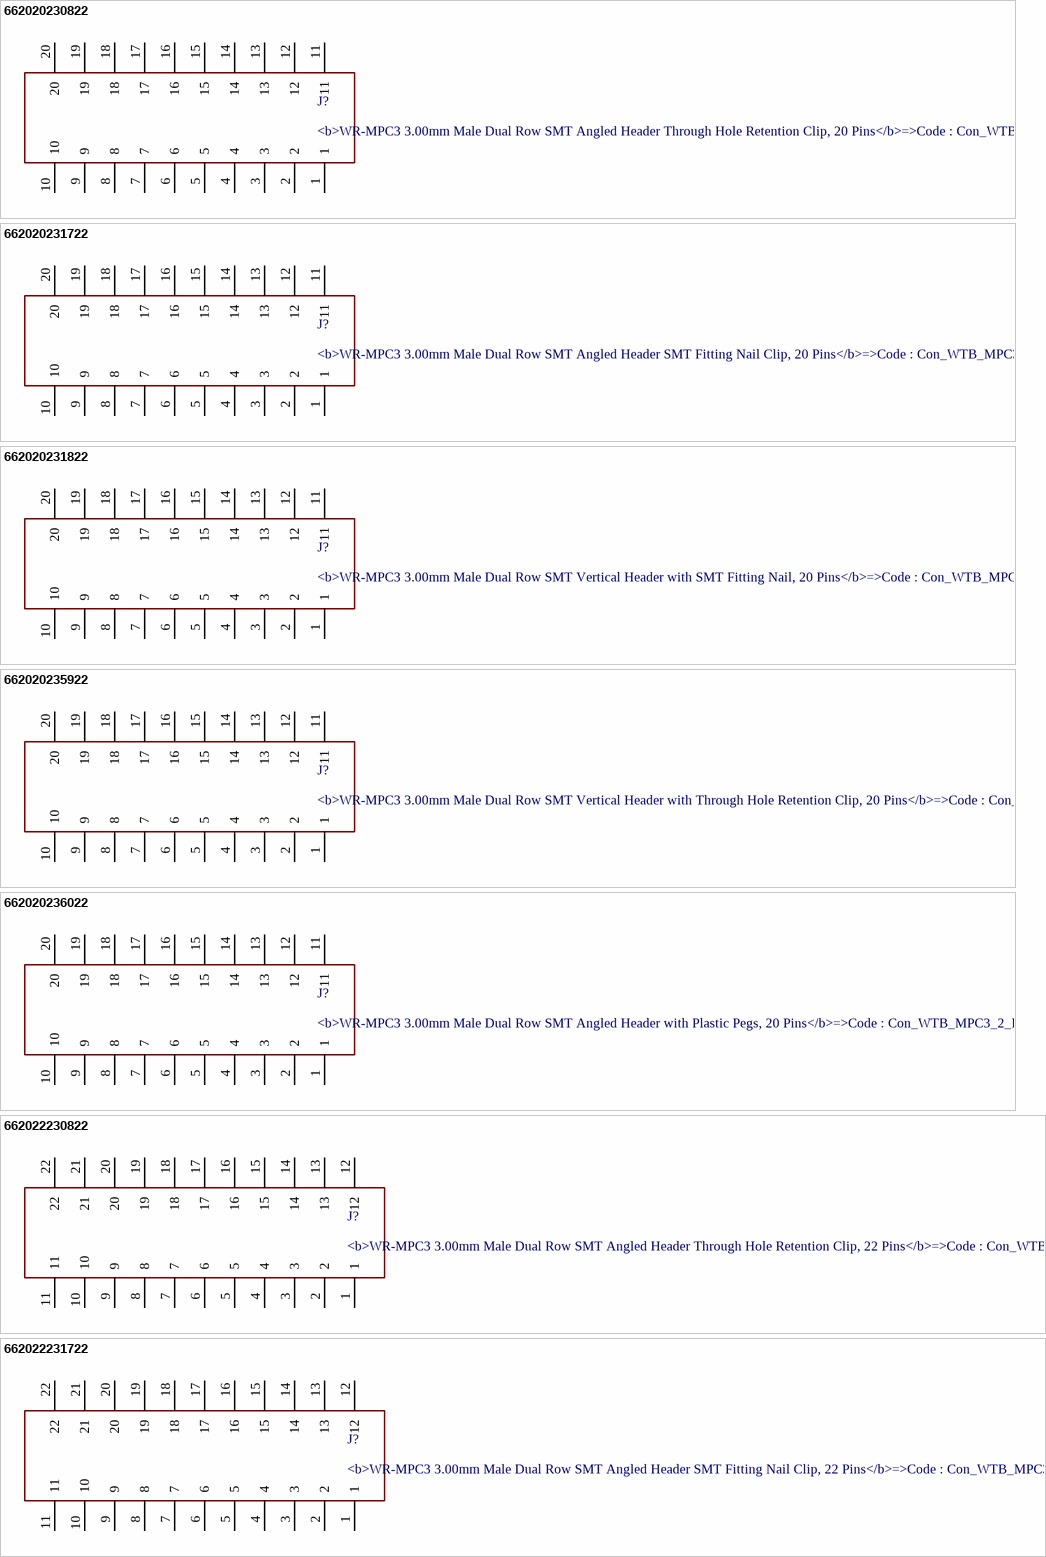
[diagram p56: symbols 662020230822 to 662022231722]

## 662020230822
designator J?, comment <b>WR-MPC3 3.00mm Male Dual Row SMT Angled Header Through Hole Retention Clip, 20 Pins</b>=>Code : Con_WTB_MPC3_2_PCB_SMT_662020230822 / <br><a href="http://katalog.we-online.de/media/thumbs2/eican/thb_Con_WTB_MPC3_2_PCB_SMT_6620xx230822_pf2.jpg" title="Enlarge picture"> / <img src="http://katalog.we-online.de/media/thumbs2/eican/thb_Con_WTB_MPC3_2_PCB_SMT_6620xx230822_pf2.jpg"  width="320"></a><p> / Details see: <a href="http://katalog.we-online.de/en/em/662_0xx_230_822">http://katalog.we-online.de/en/em/662_0xx_230_822</a><p> / Created 2014-06-06, Karrer Zheng<br> / 2014 (C) Würth Elektronik
footprint 662020230822
pins: 1, 2, 3, 4, 5, 6, 7, 8, 9, 10, 11, 12, 13, 14, 15, 16, 17, 18, 19, 20

## 662020231722
designator J?, comment <b>WR-MPC3 3.00mm Male Dual Row SMT Angled Header SMT Fitting Nail Clip, 20 Pins</b>=>Code : Con_WTB_MPC3_2_PCB_SMT_662020231722 / <br><a href="http://katalog.we-online.de/media/thumbs2/eican/thb_Con_WTB_MPC3_2_PCB_SMT_6620xx231722_pf2.jpg" title="Enlarge picture"> / <img src="http://katalog.we-online.de/media/thumbs2/eican/thb_Con_WTB_MPC3_2_PCB_SMT_6620xx231722_pf2.jpg"  width="320"></a><p> / Details see: <a href="http://katalog.we-online.de/en/em/662_0xx_231_722">http://katalog.we-online.de/en/em/662_0xx_231_722</a><p> / Created 2014-06-06, Karrer Zheng<br> / 2014 (C) Würth Elektronik
footprint 662020231722
pins: 1, 2, 3, 4, 5, 6, 7, 8, 9, 10, 11, 12, 13, 14, 15, 16, 17, 18, 19, 20

## 662020231822
designator J?, comment <b>WR-MPC3 3.00mm Male Dual Row SMT Vertical Header with SMT Fitting Nail, 20 Pins</b>=>Code : Con_WTB_MPC3_2_PCB_SMT_662020231822 / <br><a href="http://katalog.we-online.de/media/thumbs2/eican/thb_Con_WTB_MPC3_2_PCB_SMT_6620xx231822_pf2.jpg" title="Enlarge picture"> / <img src="http://katalog.we-online.de/media/thumbs2/eican/thb_Con_WTB_MPC3_2_PCB_SMT_6620xx231822_pf2.jpg"  width="320"></a><p> / Details see: <a href="http://katalog.we-online.de/en/em/662_0xx_231_822">http://katalog.we-online.de/en/em/662_0xx_231_822</a><p> / Created 2014-06-06, Karrer Zheng<br> / 2014 (C) Würth Elektronik
footprint 662020231822
pins: 1, 2, 3, 4, 5, 6, 7, 8, 9, 10, 11, 12, 13, 14, 15, 16, 17, 18, 19, 20

## 662020235922
designator J?, comment <b>WR-MPC3 3.00mm Male Dual Row SMT Vertical Header with Through Hole Retention Clip, 20 Pins</b>=>Code : Con_WTB_MPC3_2_PCB_SMT_662020235922 / <br><a href="http://katalog.we-online.de/media/thumbs2/eican/thb_Con_WTB_MPC3_2_PCB_SMT_6620xx235922_pf2.jpg" title="Enlarge picture"> / <img src="http://katalog.we-online.de/media/thumbs2/eican/thb_Con_WTB_MPC3_2_PCB_SMT_6620xx235922_pf2.jpg"  width="320"></a><p> / Details see: <a href="http://katalog.we-online.de/en/em/662_0xx_235_922">http://katalog.we-online.de/en/em/662_0xx_235_922</a><p> / Created 2014-06-06, Karrer Zheng<br> / 2014 (C) Würth Elektronik
footprint 662020235922
pins: 1, 2, 3, 4, 5, 6, 7, 8, 9, 10, 11, 12, 13, 14, 15, 16, 17, 18, 19, 20

## 662020236022
designator J?, comment <b>WR-MPC3 3.00mm Male Dual Row SMT Angled Header with Plastic Pegs, 20 Pins</b>=>Code : Con_WTB_MPC3_2_PCB_SMT_662020236022 / <br><a href="http://katalog.we-online.de/media/thumbs2/eican/thb_Con_WTB_MPC3_2_PCB_SMT_6620xx236022_pf2.jpg" title="Enlarge picture"> / <img src="http://katalog.we-online.de/media/thumbs2/eican/thb_Con_WTB_MPC3_2_PCB_SMT_6620xx236022_pf2.jpg"  width="320"></a><p> / Details see: <a href="http://katalog.we-online.de/en/em/662_0xx_236_022">http://katalog.we-online.de/en/em/662_0xx_236_022</a><p> / Created 2014-06-06, Karrer Zheng<br> / 2014 (C) Würth Elektronik
footprint 662020236022
pins: 1, 2, 3, 4, 5, 6, 7, 8, 9, 10, 11, 12, 13, 14, 15, 16, 17, 18, 19, 20

## 662022230822
designator J?, comment <b>WR-MPC3 3.00mm Male Dual Row SMT Angled Header Through Hole Retention Clip, 22 Pins</b>=>Code : Con_WTB_MPC3_2_PCB_SMT_662022230822 / <br><a href="http://katalog.we-online.de/media/thumbs2/eican/thb_Con_WTB_MPC3_2_PCB_SMT_6620xx230822_pf2.jpg" title="Enlarge picture"> / <img src="http://katalog.we-online.de/media/thumbs2/eican/thb_Con_WTB_MPC3_2_PCB_SMT_6620xx230822_pf2.jpg"  width="320"></a><p> / Details see: <a href="http://katalog.we-online.de/en/em/662_0xx_230_822">http://katalog.we-online.de/en/em/662_0xx_230_822</a><p> / Created 2014-06-06, Karrer Zheng<br> / 2014 (C) Würth Elektronik
footprint 662022230822
pins: 1, 2, 3, 4, 5 (oe), 6, 7, 8, 9, 10, 11, 12, 13, 14, 15, 16, 17, 18 (hiz), 19, 20, 21, 22

## 662022231722
designator J?, comment <b>WR-MPC3 3.00mm Male Dual Row SMT Angled Header SMT Fitting Nail Clip, 22 Pins</b>=>Code : Con_WTB_MPC3_2_PCB_SMT_662022231722 / <br><a href="http://katalog.we-online.de/media/thumbs2/eican/thb_Con_WTB_MPC3_2_PCB_SMT_6620xx231722_pf2.jpg" title="Enlarge picture"> / <img src="http://katalog.we-online.de/media/thumbs2/eican/thb_Con_WTB_MPC3_2_PCB_SMT_6620xx231722_pf2.jpg"  width="320"></a><p> / Details see: <a href="http://katalog.we-online.de/en/em/662_0xx_231_722">http://katalog.we-online.de/en/em/662_0xx_231_722</a><p> / Created 2014-06-06, Karrer Zheng<br> / 2014 (C) Würth Elektronik
footprint 662022231722
pins: 1, 2, 3, 4, 5 (oe), 6, 7, 8, 9, 10, 11, 12, 13, 14, 15, 16, 17, 18 (hiz), 19, 20, 21, 22

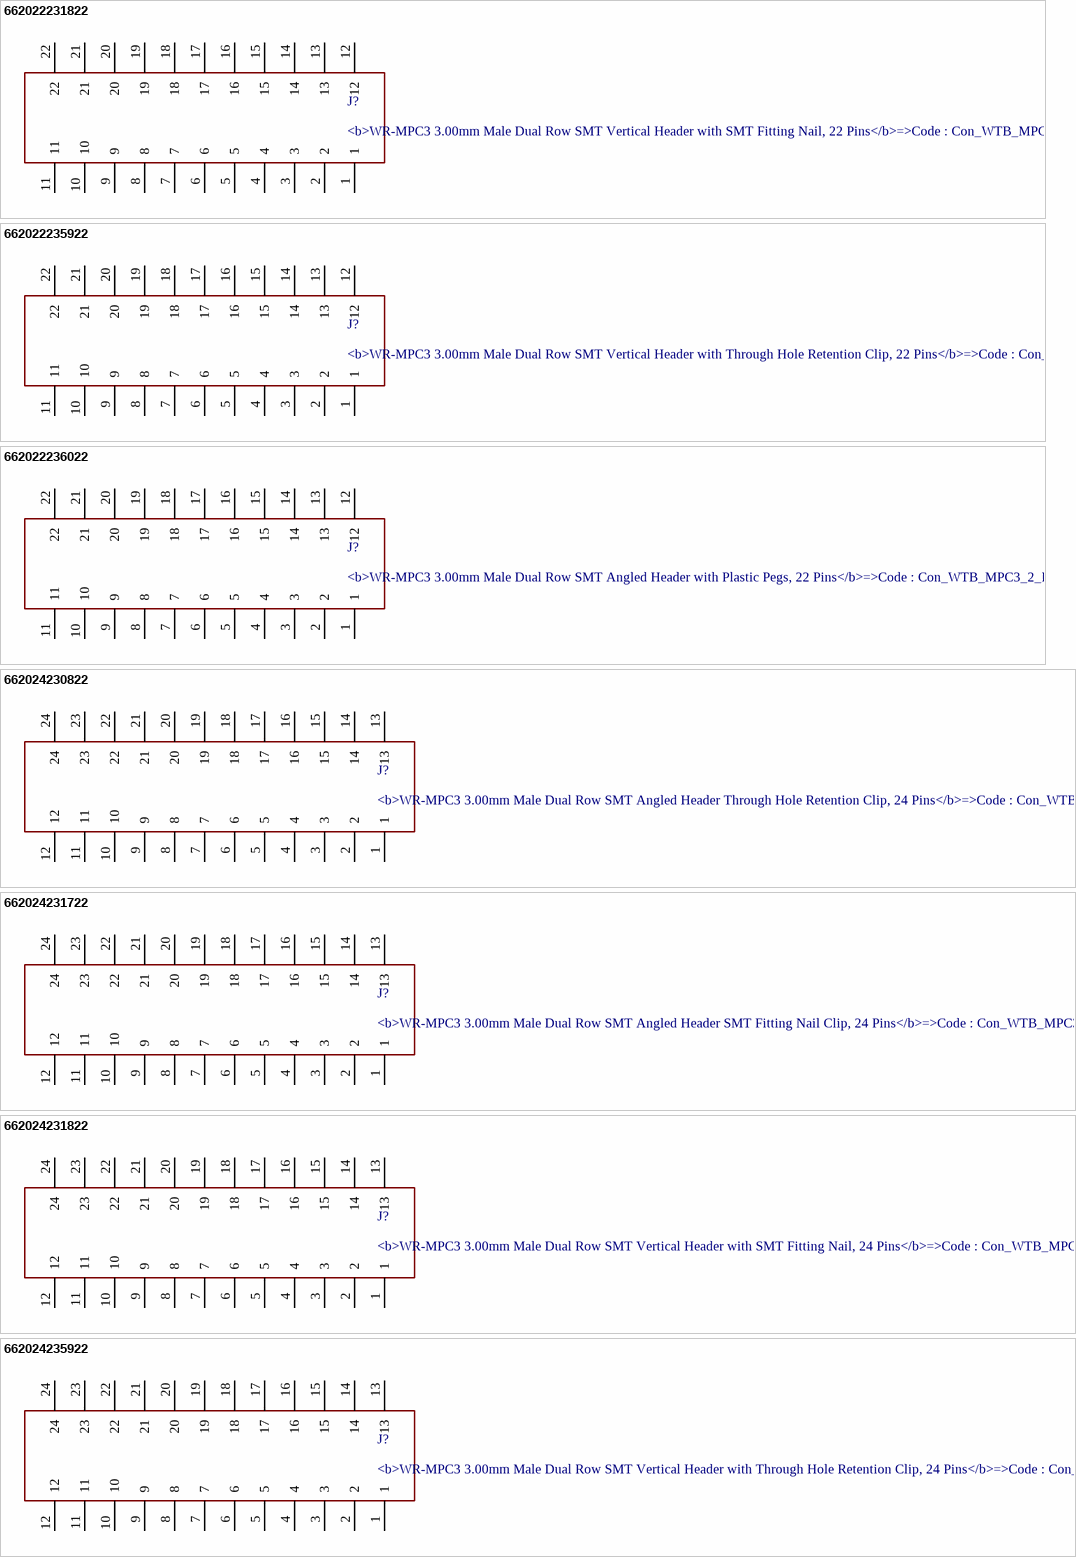
[diagram p57: symbols 662022231822 to 662024235922]

## 662022231822
designator J?, comment <b>WR-MPC3 3.00mm Male Dual Row SMT Vertical Header with SMT Fitting Nail, 22 Pins</b>=>Code : Con_WTB_MPC3_2_PCB_SMT_662022231822 / <br><a href="http://katalog.we-online.de/media/thumbs2/eican/thb_Con_WTB_MPC3_2_PCB_SMT_6620xx231822_pf2.jpg" title="Enlarge picture"> / <img src="http://katalog.we-online.de/media/thumbs2/eican/thb_Con_WTB_MPC3_2_PCB_SMT_6620xx231822_pf2.jpg"  width="320"></a><p> / Details see: <a href="http://katalog.we-online.de/en/em/662_0xx_231_822">http://katalog.we-online.de/en/em/662_0xx_231_822</a><p> / Created 2014-06-06, Karrer Zheng<br> / 2014 (C) Würth Elektronik
footprint 662022231822
pins: 1, 2, 3, 4, 5 (oe), 6, 7, 8, 9, 10, 11, 12, 13, 14, 15, 16, 17, 18 (hiz), 19, 20, 21, 22

## 662022235922
designator J?, comment <b>WR-MPC3 3.00mm Male Dual Row SMT Vertical Header with Through Hole Retention Clip, 22 Pins</b>=>Code : Con_WTB_MPC3_2_PCB_SMT_662022235922 / <br><a href="http://katalog.we-online.de/media/thumbs2/eican/thb_Con_WTB_MPC3_2_PCB_SMT_6620xx235922_pf2.jpg" title="Enlarge picture"> / <img src="http://katalog.we-online.de/media/thumbs2/eican/thb_Con_WTB_MPC3_2_PCB_SMT_6620xx235922_pf2.jpg"  width="320"></a><p> / Details see: <a href="http://katalog.we-online.de/en/em/662_0xx_235_922">http://katalog.we-online.de/en/em/662_0xx_235_922</a><p> / Created 2014-06-06, Karrer Zheng<br> / 2014 (C) Würth Elektronik
footprint 662022235922
pins: 1, 2, 3, 4, 5 (oe), 6, 7, 8, 9, 10, 11, 12, 13, 14, 15, 16, 17, 18 (hiz), 19, 20, 21, 22

## 662022236022
designator J?, comment <b>WR-MPC3 3.00mm Male Dual Row SMT Angled Header with Plastic Pegs, 22 Pins</b>=>Code : Con_WTB_MPC3_2_PCB_SMT_662022236022 / <br><a href="http://katalog.we-online.de/media/thumbs2/eican/thb_Con_WTB_MPC3_2_PCB_SMT_6620xx236022_pf2.jpg" title="Enlarge picture"> / <img src="http://katalog.we-online.de/media/thumbs2/eican/thb_Con_WTB_MPC3_2_PCB_SMT_6620xx236022_pf2.jpg"  width="320"></a><p> / Details see: <a href="http://katalog.we-online.de/en/em/662_0xx_236_022">http://katalog.we-online.de/en/em/662_0xx_236_022</a><p> / Created 2014-06-06, Karrer Zheng<br> / 2014 (C) Würth Elektronik
footprint 662022236022
pins: 1, 2, 3, 4, 5 (oe), 6, 7, 8, 9, 10, 11, 12, 13, 14, 15, 16, 17, 18 (hiz), 19, 20, 21, 22

## 662024230822
designator J?, comment <b>WR-MPC3 3.00mm Male Dual Row SMT Angled Header Through Hole Retention Clip, 24 Pins</b>=>Code : Con_WTB_MPC3_2_PCB_SMT_662024230822 / <br><a href="http://katalog.we-online.de/media/thumbs2/eican/thb_Con_WTB_MPC3_2_PCB_SMT_6620xx230822_pf2.jpg" title="Enlarge picture"> / <img src="http://katalog.we-online.de/media/thumbs2/eican/thb_Con_WTB_MPC3_2_PCB_SMT_6620xx230822_pf2.jpg"  width="320"></a><p> / Details see: <a href="http://katalog.we-online.de/en/em/662_0xx_230_822">http://katalog.we-online.de/en/em/662_0xx_230_822</a><p> / Created 2014-06-06, Karrer Zheng<br> / 2014 (C) Würth Elektronik
footprint 662024230822
pins: 1, 2, 3, 4, 5, 6, 7, 8, 9, 10, 11, 12, 13, 14, 15, 16, 17, 18, 19, 20, 21, 22, 23, 24

## 662024231722
designator J?, comment <b>WR-MPC3 3.00mm Male Dual Row SMT Angled Header SMT Fitting Nail Clip, 24 Pins</b>=>Code : Con_WTB_MPC3_2_PCB_SMT_662024231722 / <br><a href="http://katalog.we-online.de/media/thumbs2/eican/thb_Con_WTB_MPC3_2_PCB_SMT_6620xx231722_pf2.jpg" title="Enlarge picture"> / <img src="http://katalog.we-online.de/media/thumbs2/eican/thb_Con_WTB_MPC3_2_PCB_SMT_6620xx231722_pf2.jpg"  width="320"></a><p> / Details see: <a href="http://katalog.we-online.de/en/em/662_0xx_231_722">http://katalog.we-online.de/en/em/662_0xx_231_722</a><p> / Created 2014-06-06, Karrer Zheng<br> / 2014 (C) Würth Elektronik
footprint 662024231722
pins: 1, 2, 3, 4, 5, 6, 7, 8, 9, 10, 11, 12, 13, 14, 15, 16, 17, 18, 19, 20, 21, 22, 23, 24

## 662024231822
designator J?, comment <b>WR-MPC3 3.00mm Male Dual Row SMT Vertical Header with SMT Fitting Nail, 24 Pins</b>=>Code : Con_WTB_MPC3_2_PCB_SMT_662024231822 / <br><a href="http://katalog.we-online.de/media/thumbs2/eican/thb_Con_WTB_MPC3_2_PCB_SMT_6620xx231822_pf2.jpg" title="Enlarge picture"> / <img src="http://katalog.we-online.de/media/thumbs2/eican/thb_Con_WTB_MPC3_2_PCB_SMT_6620xx231822_pf2.jpg"  width="320"></a><p> / Details see: <a href="http://katalog.we-online.de/en/em/662_0xx_231_822">http://katalog.we-online.de/en/em/662_0xx_231_822</a><p> / Created 2014-06-06, Karrer Zheng<br> / 2014 (C) Würth Elektronik
footprint 662024231822
pins: 1, 2, 3, 4, 5, 6, 7, 8, 9, 10, 11, 12, 13, 14, 15, 16, 17, 18, 19, 20, 21, 22, 23, 24

## 662024235922
designator J?, comment <b>WR-MPC3 3.00mm Male Dual Row SMT Vertical Header with Through Hole Retention Clip, 24 Pins</b>=>Code : Con_WTB_MPC3_2_PCB_SMT_662024235922 / <br><a href="http://katalog.we-online.de/media/thumbs2/eican/thb_Con_WTB_MPC3_2_PCB_SMT_6620xx235922_pf2.jpg" title="Enlarge picture"> / <img src="http://katalog.we-online.de/media/thumbs2/eican/thb_Con_WTB_MPC3_2_PCB_SMT_6620xx235922_pf2.jpg"  width="320"></a><p> / Details see: <a href="http://katalog.we-online.de/en/em/662_0xx_235_922">http://katalog.we-online.de/en/em/662_0xx_235_922</a><p> / Created 2014-06-06, Karrer Zheng<br> / 2014 (C) Würth Elektronik
footprint 662024235922
pins: 1, 2, 3, 4, 5, 6, 7, 8, 9, 10, 11, 12, 13, 14, 15, 16, 17, 18, 19, 20, 21, 22, 23, 24

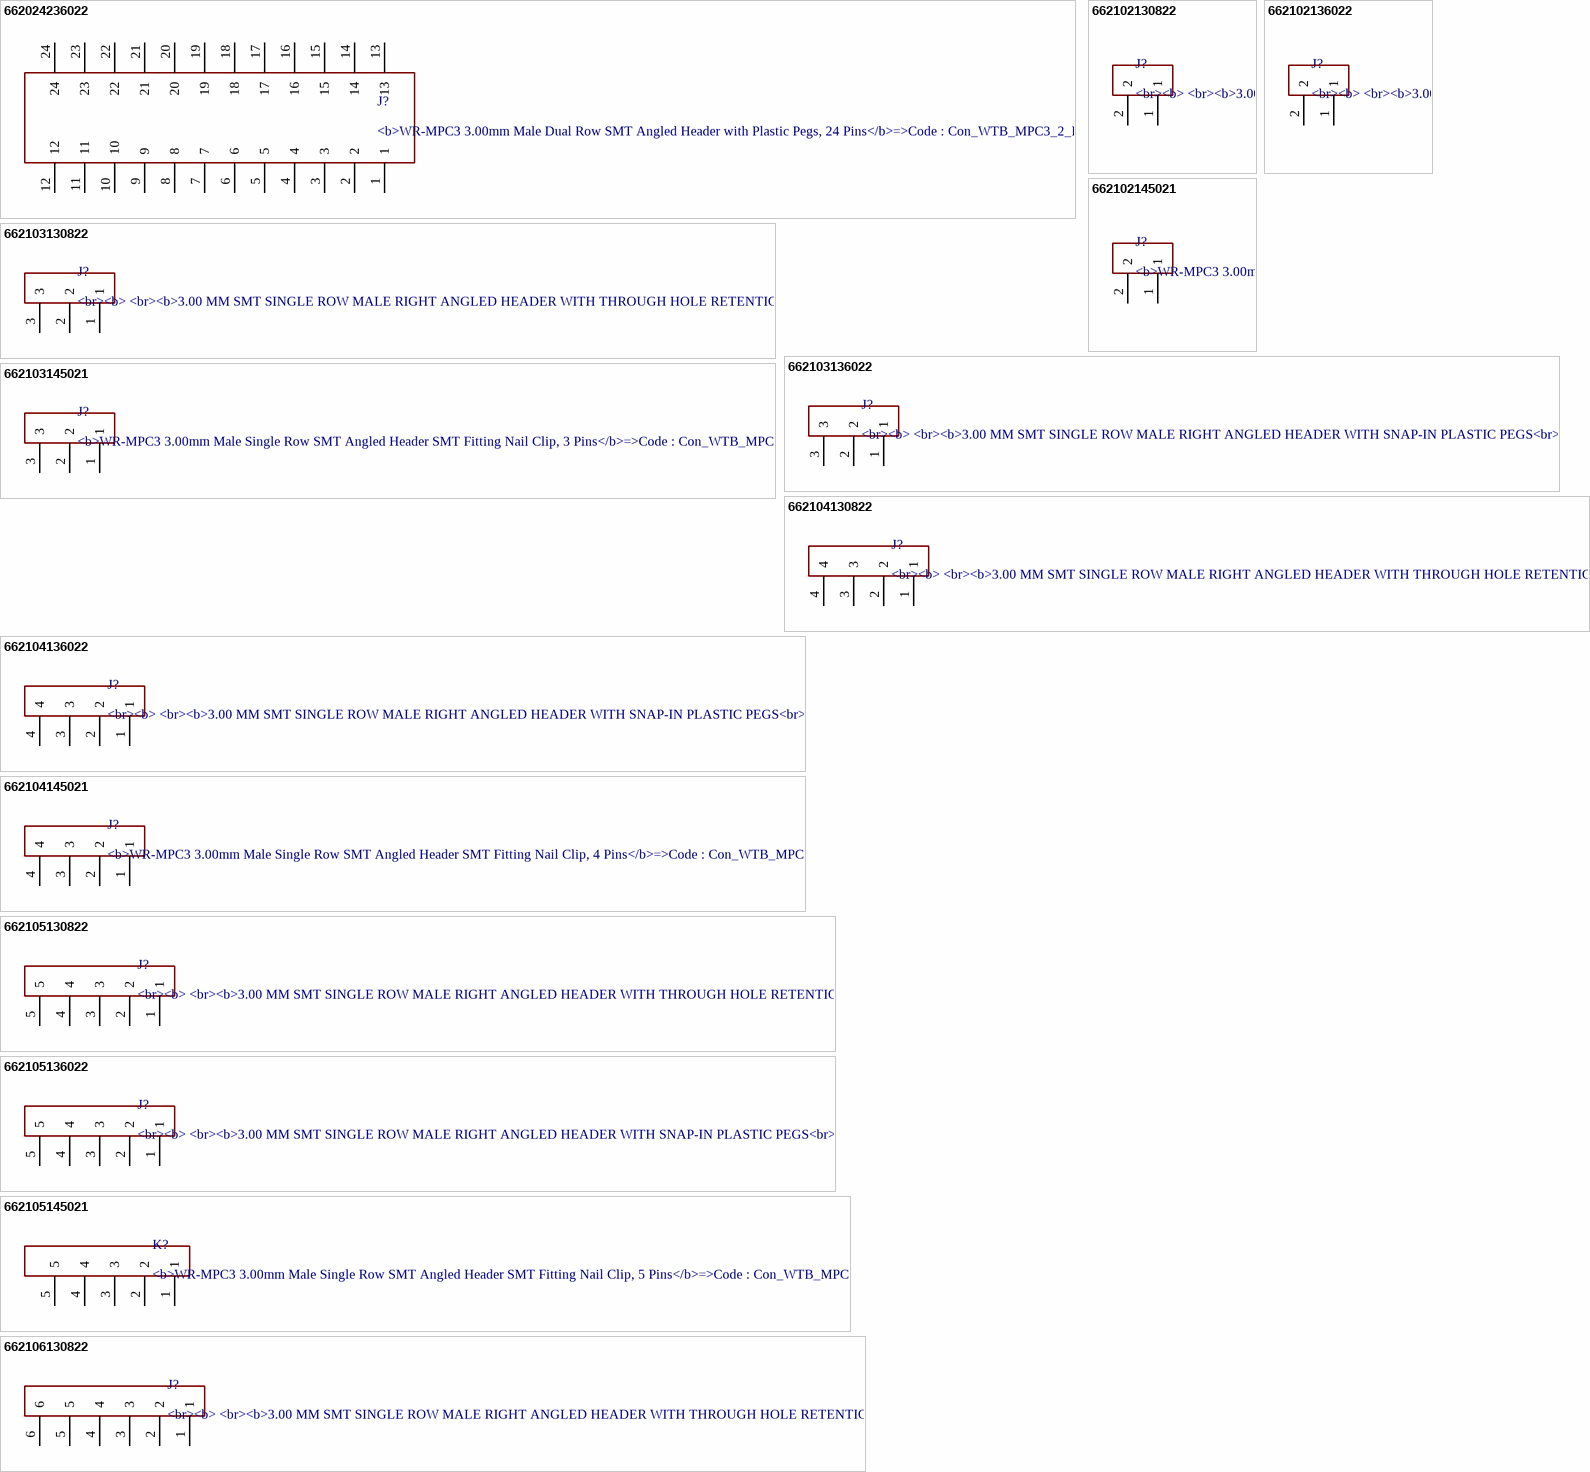
[diagram p58: symbols 662024236022 to 662106130822]

## 662024236022
designator J?, comment <b>WR-MPC3 3.00mm Male Dual Row SMT Angled Header with Plastic Pegs, 24 Pins</b>=>Code : Con_WTB_MPC3_2_PCB_SMT_662024236022 / <br><a href="http://katalog.we-online.de/media/thumbs2/eican/thb_Con_WTB_MPC3_2_PCB_SMT_6620xx236022_pf2.jpg" title="Enlarge picture"> / <img src="http://katalog.we-online.de/media/thumbs2/eican/thb_Con_WTB_MPC3_2_PCB_SMT_6620xx236022_pf2.jpg"  width="320"></a><p> / Details see: <a href="http://katalog.we-online.de/en/em/662_0xx_236_022">http://katalog.we-online.de/en/em/662_0xx_236_022</a><p> / Created 2014-06-06, Karrer Zheng<br> / 2014 (C) Würth Elektronik
footprint 662024236022
pins: 1, 2, 3, 4, 5, 6, 7, 8, 9, 10, 11, 12, 13, 14, 15, 16, 17, 18, 19, 20, 21, 22, 23, 24

## 662102130822
designator J?, comment <br><b> <br><b>3.00 MM SMT SINGLE ROW MALE RIGHT ANGLED HEADER WITH THROUGH HOLE RETENTION CLIPS<br><br></b></b>=>ConMPC3 662102130822 / <br> / <br> / <br><b> Characteristics / <br><br></b></b>INSULATOR: LCP / <br>FLAMABILITY RATING: UL94-V0 / <br>COLOR: BLACK / <br>CONTACT MATERIAL: COPPER ALLOY / <br>CONTACT TYPE: STAMPED / <br>CONTACT PLATING: TIN / <br>QUALITY CLASS: 25 MATING CYCLES / <br>OPERATING TEMPERATURE:-40°C UP TO +105°C / <br>COMPLIANCE: LEAD FREE AND ROHS / <br> / <br> / <br> / <br><b> ELECTRICAL / <br><br></b></b>CURRENT RATING: 5A / <br>WORKING VOLTAGE: 250 VAC / <br>INSULATOR RESISTANCE: >1000 MOHM / <br>DIELECTRIC WITHSTANDING VOLTAGE: 1500 VAC/MN / <br>CONTACT RESISTANCE: 10 mOHM MAX / <br> / <br> / <br><a href="http://katalog.we-online.de/media/images/v2/Family_WRMPC3-6621xx130822_SW.jpg" title="Enlarge picture"> / <img src="http://katalog.we-online.de/media/images/v2/Family_WRMPC3-6621xx130822_SW.jpg"  width="320"></a><p> / Details see: <a href="http://katalog.we-online.de/en/em/MPC3_3_00_SMT_MALE_SINGLE_ROW_ANGLED_HEADER_W_THT_RETENTION_CLIP_6621XX130822">http://katalog.we-online.de/en/em/MPC3_3_00_SMT_MALE_SINGLE_ROW_ANGLED_HEADER_W_THT_RETENTION_CLIP_6621XX130822</a><p> / <br></b>2015 (C) Wurth Elektronik
footprint 662102130822
pins: 1, 2

## 662102136022
designator J?, comment <br><b> <br><b>3.00 MM SMT SINGLE ROW MALE RIGHT ANGLED HEADER WITH SNAP-IN PLASTIC PEGS<br><br></b></b>=>ConMPC3 662102136022 / <br> / <br> / <br><b> Characteristics / <br><br></b></b>INSULATOR: LCP / <br>FLAMABILITY RATING: UL94-V0 / <br>COLOR: BLACK / <br>CONTACT MATERIAL: COPPER ALLOY / <br>CONTACT TYPE: STAMPED / <br>CONTACT PLATING: TIN / <br>QUALITY CLASS:25 MATING CYCLES / <br>OPERATING TEMPERATURE:-40°C UP TO +105°C / <br>COMPLIANCE: LEAD FREE AND ROHS / <br> / <br> / <br> / <br><b> ELECTRICAL / <br><br></b></b>CURRENT RATING: 5A / <br>WORKING VOLTAGE: 250 VAC / <br>INSULATOR RESISTANCE: >1000 MOHM / <br>DIELECTRIC WITHSTANDING VOLTAGE: 1500 VAC/MN / <br>CONTACT RESISTANCE: 10 mOHM MAX / <br> / <br> / <br><a href="http://katalog.we-online.de/media/images/v2/Family_WR-MPC3-6621xx136022_SW.jpg" title="Enlarge picture"> / <img src="http://katalog.we-online.de/media/images/v2/Family_WR-MPC3-6621xx136022_SW.jpg"  width="320"></a><p> / Details see: <a href="http://katalog.we-online.de/en/em/MPC3_3_00_SMT_MALE_RIGHT_ANGLED_W_PLASTIC_PEGS_6621XX136022">http://katalog.we-online.de/en/em/MPC3_3_00_SMT_MALE_RIGHT_ANGLED_W_PLASTIC_PEGS_6621XX136022</a><p> / <br></b>2015 (C) Wurth Elektronik
footprint 662102136022
pins: 1, 2

## 662102145021
designator J?, comment <b>WR-MPC3 3.00mm Male Single Row SMT Angled Header SMT Fitting Nail Clip, 2 Pins</b>=>Code : Con_WTB_MPC3_1_PCB_662102145021 / <br><a href="http://katalog.we-online.de/media/thumbs2/eican/thb_Con_WTB_MPC3_1_PCB_6621xx145021_pf2.jpg" title="Enlarge picture"> / <img src="http://katalog.we-online.de/media/thumbs2/eican/thb_Con_WTB_MPC3_1_PCB_6621xx145021_pf2.jpg"  width="320"></a><p> / Details see: <a href="http://katalog.we-online.de/en/em/662_1xx_145_021">http://katalog.we-online.de/en/em/662_1xx_145_021</a><p> / Created 2014-06-06, Karrer Zheng<br> / 2014 (C) Würth Elektronik
footprint 662102145021
pins: 1, 2

## 662103130822
designator J?, comment <br><b> <br><b>3.00 MM SMT SINGLE ROW MALE RIGHT ANGLED HEADER WITH THROUGH HOLE RETENTION CLIPS<br><br></b></b>=>ConMPC3 662103130822 / <br> / <br> / <br><b> Characteristics / <br><br></b></b>INSULATOR: LCP / <br>FLAMABILITY RATING: UL94-V0 / <br>COLOR: BLACK / <br>CONTACT MATERIAL: COPPER ALLOY / <br>CONTACT TYPE: STAMPED / <br>CONTACT PLATING: TIN / <br>QUALITY CLASS: 25 MATING CYCLES / <br>OPERATING TEMPERATURE:-40°C UP TO +105°C / <br>COMPLIANCE: LEAD FREE AND ROHS / <br> / <br> / <br> / <br><b> ELECTRICAL / <br><br></b></b>CURRENT RATING: 5A / <br>WORKING VOLTAGE: 250 VAC / <br>INSULATOR RESISTANCE: >1000 MOHM / <br>DIELECTRIC WITHSTANDING VOLTAGE: 1500 VAC/MN / <br>CONTACT RESISTANCE: 10 mOHM MAX / <br> / <br> / <br><a href="http://katalog.we-online.de/media/images/v2/Family_WRMPC3-6621xx130822_SW.jpg" title="Enlarge picture"> / <img src="http://katalog.we-online.de/media/images/v2/Family_WRMPC3-6621xx130822_SW.jpg"  width="320"></a><p> / Details see: <a href="http://katalog.we-online.de/en/em/MPC3_3_00_SMT_MALE_SINGLE_ROW_ANGLED_HEADER_W_THT_RETENTION_CLIP_6621XX130822/662102130822">http://katalog.we-online.de/en/em/MPC3_3_00_SMT_MALE_SINGLE_ROW_ANGLED_HEADER_W_THT_RETENTION_CLIP_6621XX130822/662102130822?</a><p> / <br></b>2015 (C) Wurth Elektronik
footprint 662103130822
pins: 1, 2, 3

## 662103136022
designator J?, comment <br><b> <br><b>3.00 MM SMT SINGLE ROW MALE RIGHT ANGLED HEADER WITH SNAP-IN PLASTIC PEGS<br><br></b></b>=>ConMPC3 662103136022 / <br> / <br> / <br><b> Characteristics / <br><br></b></b>INSULATOR: LCP / <br>FLAMABILITY RATING: UL94-V0 / <br>COLOR: BLACK / <br>CONTACT MATERIAL: COPPER ALLOY / <br>CONTACT TYPE: STAMPED / <br>CONTACT PLATING: TIN / <br>QUALITY CLASS:25 MATING CYCLES / <br>OPERATING TEMPERATURE:-40°C UP TO +105°C / <br>COMPLIANCE: LEAD FREE AND ROHS / <br> / <br> / <br> / <br><b> ELECTRICAL / <br><br></b></b>CURRENT RATING: 5A / <br>WORKING VOLTAGE: 250 VAC / <br>INSULATOR RESISTANCE: >1000 MOHM / <br>DIELECTRIC WITHSTANDING VOLTAGE: 1500 VAC/MN / <br>CONTACT RESISTANCE: 10 mOHM MAX / <br> / <br> / <br><a href="http://katalog.we-online.de/media/images/v2/Family_WR-MPC3-6621xx136022_SW.jpg" title="Enlarge picture"> / <img src="http://katalog.we-online.de/media/images/v2/Family_WR-MPC3-6621xx136022_SW.jpg"  width="320"></a><p> / Details see: <a href="http://katalog.we-online.de/en/em/MPC3_3_00_SMT_MALE_RIGHT_ANGLED_W_PLASTIC_PEGS_6621XX136022">http://katalog.we-online.de/en/em/MPC3_3_00_SMT_MALE_RIGHT_ANGLED_W_PLASTIC_PEGS_6621XX136022</a><p> / <br></b>2015 (C) Wurth Elektronik
footprint 662103136022
pins: 1, 2, 3

## 662103145021
designator J?, comment <b>WR-MPC3 3.00mm Male Single Row SMT Angled Header SMT Fitting Nail Clip, 3 Pins</b>=>Code : Con_WTB_MPC3_1_PCB_6621023145021 / <br><a href="http://katalog.we-online.de/media/thumbs2/eican/thb_Con_WTB_MPC3_1_PCB_6621xx145021_pf2.jpg" title="Enlarge picture"> / <img src="http://katalog.we-online.de/media/thumbs2/eican/thb_Con_WTB_MPC3_1_PCB_6621xx145021_pf2.jpg"  width="320"></a><p> / Details see: <a href="http://katalog.we-online.de/en/em/662_1xx_145_021">http://katalog.we-online.de/en/em/662_1xx_145_021</a><p> / Created 2014-06-06, Karrer Zheng<br> / 2014 (C) Würth Elektronik
footprint 662103145021
pins: 1, 2, 3

## 662104130822
designator J?, comment <br><b> <br><b>3.00 MM SMT SINGLE ROW MALE RIGHT ANGLED HEADER WITH THROUGH HOLE RETENTION CLIPS<br><br></b></b>=>ConMPC3 662104130822 / <br> / <br> / <br><b> Characteristics / <br><br></b></b>INSULATOR: LCP / <br>FLAMABILITY RATING: UL94-V0 / <br>COLOR: BLACK / <br>CONTACT MATERIAL: COPPER ALLOY / <br>CONTACT TYPE: STAMPED / <br>CONTACT PLATING: TIN / <br>QUALITY CLASS: 25 MATING CYCLES / <br>OPERATING TEMPERATURE:-40°C UP TO +105°C / <br>COMPLIANCE: LEAD FREE AND ROHS / <br> / <br> / <br> / <br><b> ELECTRICAL / <br><br></b></b>CURRENT RATING: 5A / <br>WORKING VOLTAGE: 250 VAC / <br>INSULATOR RESISTANCE: >1000 MOHM / <br>DIELECTRIC WITHSTANDING VOLTAGE: 1500 VAC/MN / <br>CONTACT RESISTANCE: 10 mOHM MAX / <br> / <br> / <br><a href="http://katalog.we-online.de/media/images/v2/Family_WRMPC3-6621xx130822_SW.jpg" title="Enlarge picture"> / <img src="http://katalog.we-online.de/media/images/v2/Family_WRMPC3-6621xx130822_SW.jpg"  width="320"></a><p> / Details see: <a href="http://katalog.we-online.de/en/em/MPC3_3_00_SMT_MALE_SINGLE_ROW_ANGLED_HEADER_W_THT_RETENTION_CLIP_6621XX130822/662102130822">http://katalog.we-online.de/en/em/MPC3_3_00_SMT_MALE_SINGLE_ROW_ANGLED_HEADER_W_THT_RETENTION_CLIP_6621XX130822/662102130822?</a><p> / <br></b>2015 (C) Wurth Elektronik
footprint 662104130822
pins: 1, 2, 3, 4

## 662104136022
designator J?, comment <br><b> <br><b>3.00 MM SMT SINGLE ROW MALE RIGHT ANGLED HEADER WITH SNAP-IN PLASTIC PEGS<br><br></b></b>=>ConMPC3 662104136022 / <br> / <br> / <br><b> Characteristics / <br><br></b></b>INSULATOR: LCP / <br>FLAMABILITY RATING: UL94-V0 / <br>COLOR: BLACK / <br>CONTACT MATERIAL: COPPER ALLOY / <br>CONTACT TYPE: STAMPED / <br>CONTACT PLATING: TIN / <br>QUALITY CLASS:25 MATING CYCLES / <br>OPERATING TEMPERATURE:-40°C UP TO +105°C / <br>COMPLIANCE: LEAD FREE AND ROHS / <br> / <br> / <br> / <br><b> ELECTRICAL / <br><br></b></b>CURRENT RATING: 5A / <br>WORKING VOLTAGE: 250 VAC / <br>INSULATOR RESISTANCE: >1000 MOHM / <br>DIELECTRIC WITHSTANDING VOLTAGE: 1500 VAC/MN / <br>CONTACT RESISTANCE: 10 mOHM MAX / <br> / <br> / <br><a href="http://katalog.we-online.de/media/images/v2/Family_WR-MPC3-6621xx136022_SW.jpg" title="Enlarge picture"> / <img src="http://katalog.we-online.de/media/images/v2/Family_WR-MPC3-6621xx136022_SW.jpg"  width="320"></a><p> / Details see: <a href="http://katalog.we-online.de/en/em/MPC3_3_00_SMT_MALE_RIGHT_ANGLED_W_PLASTIC_PEGS_6621XX136022">http://katalog.we-online.de/en/em/MPC3_3_00_SMT_MALE_RIGHT_ANGLED_W_PLASTIC_PEGS_6621XX136022</a><p> / <br></b>2015 (C) Wurth Elektronik
footprint 662104136022
pins: 1, 2, 3, 4

## 662104145021
designator J?, comment <b>WR-MPC3 3.00mm Male Single Row SMT Angled Header SMT Fitting Nail Clip, 4 Pins</b>=>Code : Con_WTB_MPC3_1_PCB_662104145021 / <br><a href="http://katalog.we-online.de/media/thumbs2/eican/thb_Con_WTB_MPC3_1_PCB_6621xx145021_pf2.jpg" title="Enlarge picture"> / <img src="http://katalog.we-online.de/media/thumbs2/eican/thb_Con_WTB_MPC3_1_PCB_6621xx145021_pf2.jpg"  width="320"></a><p> / Details see: <a href="http://katalog.we-online.de/en/em/662_1xx_145_021">http://katalog.we-online.de/en/em/662_1xx_145_021</a><p> / Created 2014-06-06, Karrer Zheng<br> / 2014 (C) Würth Elektronik
footprint 662104145021
pins: 1, 2, 3, 4

## 662105130822
designator J?, comment <br><b> <br><b>3.00 MM SMT SINGLE ROW MALE RIGHT ANGLED HEADER WITH THROUGH HOLE RETENTION CLIPS<br><br></b></b>=>ConMPC3 662105130822 / <br> / <br> / <br><b> Characteristics / <br><br></b></b>INSULATOR: LCP / <br>FLAMABILITY RATING: UL94-V0 / <br>COLOR: BLACK / <br>CONTACT MATERIAL: COPPER ALLOY / <br>CONTACT TYPE: STAMPED / <br>CONTACT PLATING: TIN / <br>QUALITY CLASS: 25 MATING CYCLES / <br>OPERATING TEMPERATURE:-40°C UP TO +105°C / <br>COMPLIANCE: LEAD FREE AND ROHS / <br> / <br> / <br> / <br><b> ELECTRICAL / <br><br></b></b>CURRENT RATING: 5A / <br>WORKING VOLTAGE: 250 VAC / <br>INSULATOR RESISTANCE: >1000 MOHM / <br>DIELECTRIC WITHSTANDING VOLTAGE: 1500 VAC/MN / <br>CONTACT RESISTANCE: 10 mOHM MAX / <br> / <br> / <br><a href="http://katalog.we-online.de/media/images/v2/Family_WRMPC3-6621xx130822_SW.jpg" title="Enlarge picture"> / <img src="http://katalog.we-online.de/media/images/v2/Family_WRMPC3-6621xx130822_SW.jpg"  width="320"></a><p> / Details see: <a href="http://katalog.we-online.de/en/em/MPC3_3_00_SMT_MALE_SINGLE_ROW_ANGLED_HEADER_W_THT_RETENTION_CLIP_6621XX130822/662102130822">http://katalog.we-online.de/en/em/MPC3_3_00_SMT_MALE_SINGLE_ROW_ANGLED_HEADER_W_THT_RETENTION_CLIP_6621XX130822/662102130822?</a><p> / <br></b>2015 (C) Wurth Elektronik
footprint 662105130822
pins: 1, 2, 3, 4, 5

## 662105136022
designator J?, comment <br><b> <br><b>3.00 MM SMT SINGLE ROW MALE RIGHT ANGLED HEADER WITH SNAP-IN PLASTIC PEGS<br><br></b></b>=>ConMPC3 662105136022 / <br> / <br> / <br><b> Characteristics / <br><br></b></b>INSULATOR: LCP / <br>FLAMABILITY RATING: UL94-V0 / <br>COLOR: BLACK / <br>CONTACT MATERIAL: COPPER ALLOY / <br>CONTACT TYPE: STAMPED / <br>CONTACT PLATING: TIN / <br>QUALITY CLASS:25 MATING CYCLES / <br>OPERATING TEMPERATURE:-40°C UP TO +105°C / <br>COMPLIANCE: LEAD FREE AND ROHS / <br> / <br> / <br> / <br><b> ELECTRICAL / <br><br></b></b>CURRENT RATING: 5A / <br>WORKING VOLTAGE: 250 VAC / <br>INSULATOR RESISTANCE: >1000 MOHM / <br>DIELECTRIC WITHSTANDING VOLTAGE: 1500 VAC/MN / <br>CONTACT RESISTANCE: 10 mOHM MAX / <br> / <br> / <br><a href="http://katalog.we-online.de/media/images/v2/Family_WR-MPC3-6621xx136022_SW.jpg" title="Enlarge picture"> / <img src="http://katalog.we-online.de/media/images/v2/Family_WR-MPC3-6621xx136022_SW.jpg"  width="320"></a><p> / Details see: <a href="http://katalog.we-online.de/en/em/MPC3_3_00_SMT_MALE_RIGHT_ANGLED_W_PLASTIC_PEGS_6621XX136022">http://katalog.we-online.de/en/em/MPC3_3_00_SMT_MALE_RIGHT_ANGLED_W_PLASTIC_PEGS_6621XX136022</a><p> / <br></b>2015 (C) Wurth Elektronik
footprint 662105136022
pins: 1, 2, 3, 4, 5